# Altium schematic symbol library Schlib_Analog_Devices.SchLib: 86 symbols (part 1 of 2)
Pins are listed as number, name and electrical type; pins without a type are passive.

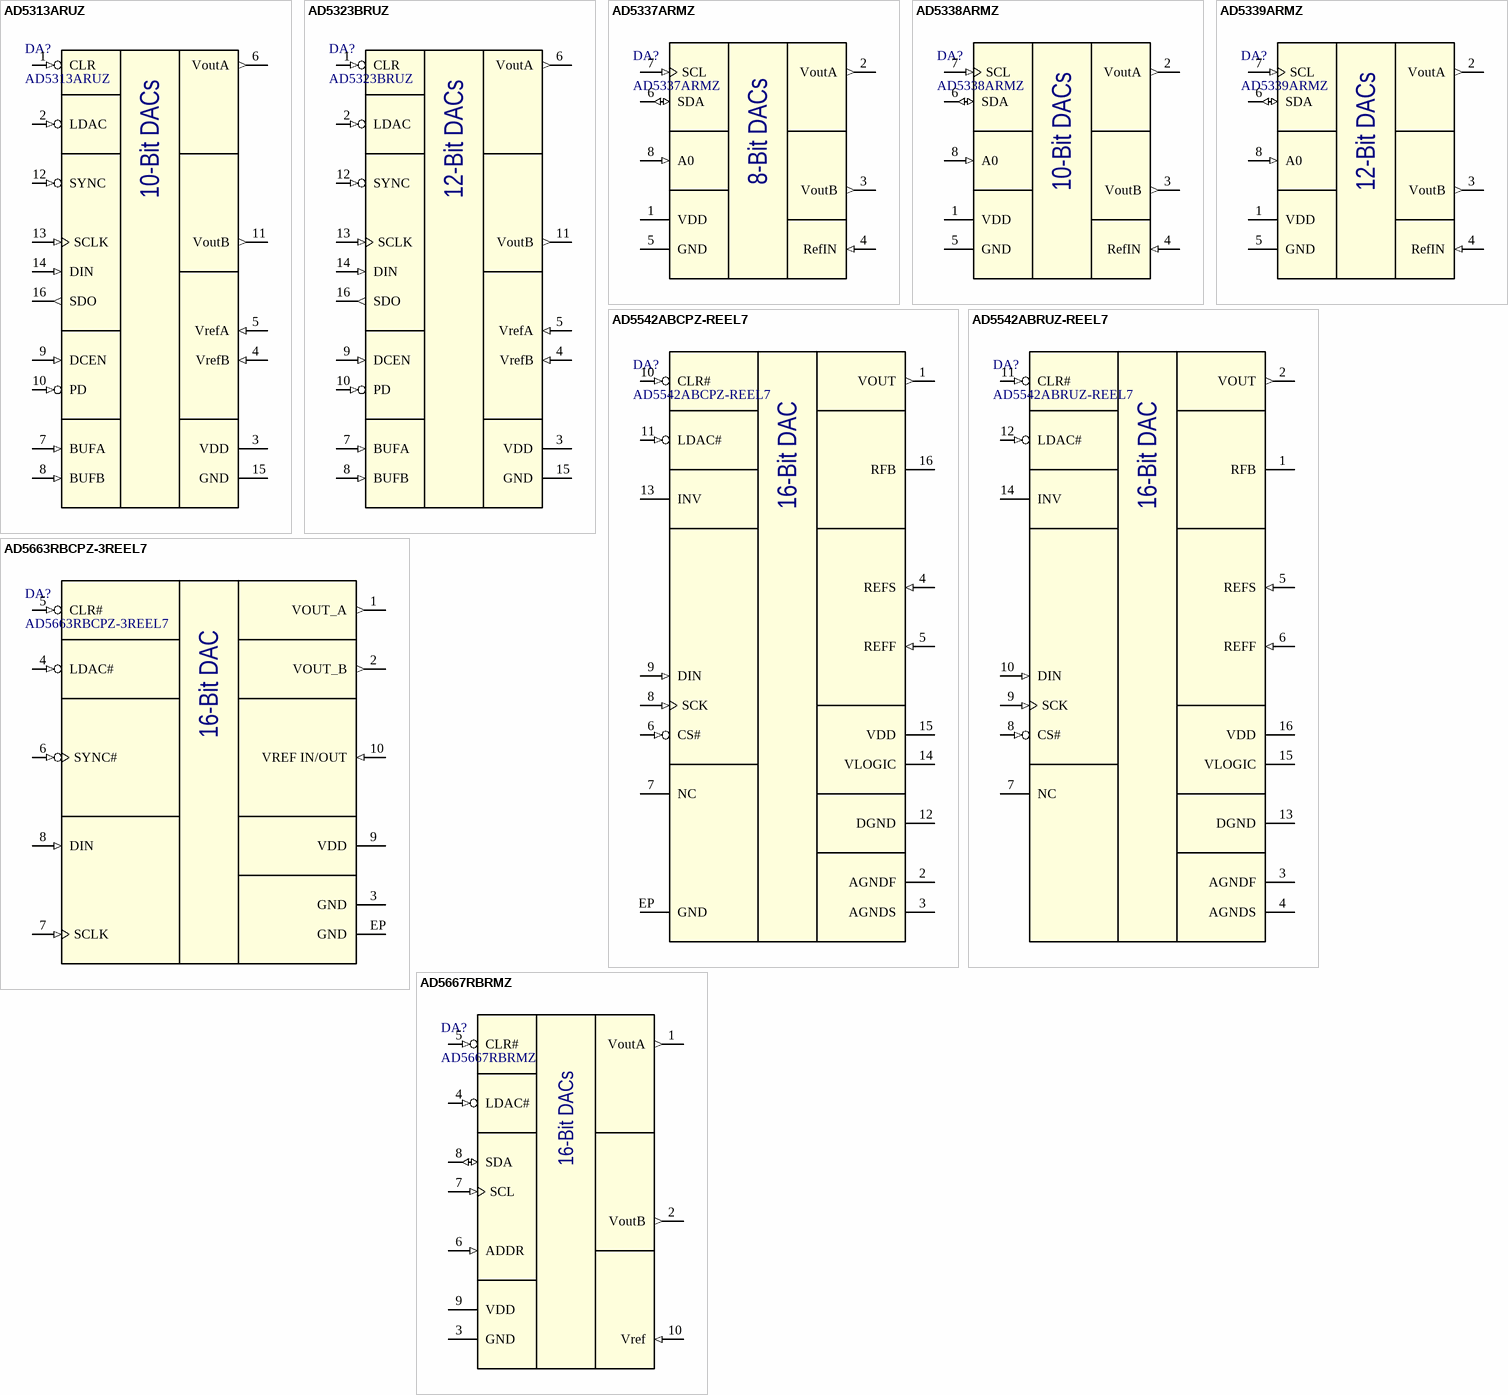
[diagram p0: symbols AD5313ARUZ to AD5667RBRMZ]

## AD5313ARUZ
designator DA?
Dual Rail-to-Rail Voltage Output 10-Bit DACs; Manufacturer: Analog Devices; Package: TSSOP16; Part Number: AD5313ARUZ
footprint TSSOP-16 (TSOP, 20-Leads, Body 6.50x4.40mm, Pitch 0.65mm, IPC Medium Density)
pins: 1 CLR (in), 2 LDAC (in), 3 VDD (power), 4 VrefB (in), 5 VrefA (in), 6 VoutA (out), 7 BUFA (in), 8 BUFB (in), 9 DCEN (in), 10 PD (in), 11 VoutB (out), 12 SYNC (in), 13 SCLK (in), 14 DIN (in), 15 GND (power), 16 SDO (out)
text: 10-Bit DACs

## AD5323BRUZ
designator DA?
Dual Rail-to-Rail Voltage Output 12-Bit DACs; Manufacturer: Analog Devices; Package: TSSOP16; Part Number: AD5323BRUZ
footprint TSSOP-16 (TSOP, 20-Leads, Body 6.50x4.40mm, Pitch 0.65mm, IPC Medium Density)
pins: 1 CLR (in), 2 LDAC (in), 3 VDD (power), 4 VrefB (in), 5 VrefA (in), 6 VoutA (out), 7 BUFA (in), 8 BUFB (in), 9 DCEN (in), 10 PD (in), 11 VoutB (out), 12 SYNC (in), 13 SCLK (in), 14 DIN (in), 15 GND (power), 16 SDO (out)
text: 12-Bit DACs

## AD5337ARMZ
designator DA?
Dual Voltage Output, 8-Bit DACs; Manufacturer: Analog Devices; Package: MSOP-8; Part Number: AD5337ARMZ
footprint MSOP-8 (TSOP, 8-Leads, Body 3.00x3.00mm, Pitch 0.65mm, IPC Medium Density)
pins: 1 VDD (power), 2 VoutA (out), 3 VoutB (out), 4 RefIN (in), 5 GND (power), 6 SDA (io), 7 SCL (in), 8 A0 (in)
text: 8-Bit DACs

## AD5338ARMZ
designator DA?
Dual Voltage Output, 10-Bit DACs; Manufacturer: Analog Devices; Package: MSOP-8; Part Number: AD5338ARMZ
footprint MSOP-8 (TSOP, 8-Leads, Body 3.00x3.00mm, Pitch 0.65mm, IPC Medium Density)
pins: 1 VDD (power), 2 VoutA (out), 3 VoutB (out), 4 RefIN (in), 5 GND (power), 6 SDA (io), 7 SCL (in), 8 A0 (in)
text: 10-Bit DACs

## AD5339ARMZ
designator DA?
Dual Voltage Output, 12-Bit DACs; Manufacturer: Analog Devices; Package: MSOP-8; Part Number: AD5339ARMZ
footprint MSOP-8 (TSOP, 8-Leads, Body 3.00x3.00mm, Pitch 0.65mm, IPC Medium Density)
pins: 1 VDD (power), 2 VoutA (out), 3 VoutB (out), 4 RefIN (in), 5 GND (power), 6 SDA (io), 7 SCL (in), 8 A0 (in)
text: 12-Bit DACs

## AD5542ABCPZ-REEL7
designator DA?
2.7 V to 5.5 V, Serial-Input, Voltage-Output, 16-Bit DAC; Manufacturer: Analog Devices; Package: LFCSP-16; Part Number: AD5542ABCPZ-REEL7
footprint LFCSP-16EP (3x3mm LFCSP-16 Package)
pins: 1 VOUT (out), 2 AGNDF (power), 3 AGNDS (power), 4 REFS (in), 5 REFF (in), 6 CS# (in), 7 NC (hiz), 8 SCK (in), 9 DIN (in), 10 CLR# (in), 11 LDAC# (in), 12 DGND (power), 13 INV, 14 VLOGIC (power), 15 VDD (power), 16 RFB, EP GND (power)
text: 16-Bit DAC

## AD5542ABRUZ-REEL7
designator DA?
2.7 V to 5.5 V, Serial-Input, Voltage-Output, 16-Bit DAC; Manufacturer: Analog Devices; Package: TSSOP16; Part Number: AD5542ABRUZ-REEL7
footprint TSSOP-16 (TSOP, 20-Leads, Body 6.50x4.40mm, Pitch 0.65mm, IPC Medium Density)
pins: 1 RFB, 2 VOUT (out), 3 AGNDF (power), 4 AGNDS (power), 5 REFS (in), 6 REFF (in), 7 NC (hiz), 8 CS# (in), 9 SCK (in), 10 DIN (in), 11 CLR# (in), 12 LDAC# (in), 13 DGND (power), 14 INV, 15 VLOGIC (power), 16 VDD (power)
text: 16-Bit DAC

## AD5663RBCPZ-3REEL7
designator DA?
Dual 16-Bit nanoDAC with 5 ppm/°C On-Chip Reference; Manufacturer: Analog Devices; Package: LFCSP-10; Part Number: AD5663RBCPZ-3REEL7
footprint LFCSP-10EP
pins: 1 VOUT_A (out), 2 VOUT_B (out), 3 GND (power), 4 LDAC# (in), 5 CLR# (in), 6 SYNC# (in), 7 SCLK (in), 8 DIN (in), 9 VDD (power), 10 VREF IN/OUT (in), EP GND (power)
text: 16-Bit DAC

## AD5667RBRMZ
designator DA?
Dual Rail-to-Rail Voltage Output 16-Bit DACs; Manufacturer: Analog Devices; Package: MSOP-10; Part Number: AD5667RBRMZ
footprint MSOP-10 (TSOP, 8-Leads, Body 3.00x3.00mm, Pitch 0.65mm, IPC Medium Density)
pins: 1 VoutA (out), 2 VoutB (out), 3 GND (power), 4 LDAC# (in), 5 CLR# (in), 6 ADDR (in), 7 SCL (in), 8 SDA (io), 9 VDD (power), 10 Vref (in)
text: 16-Bit DACs

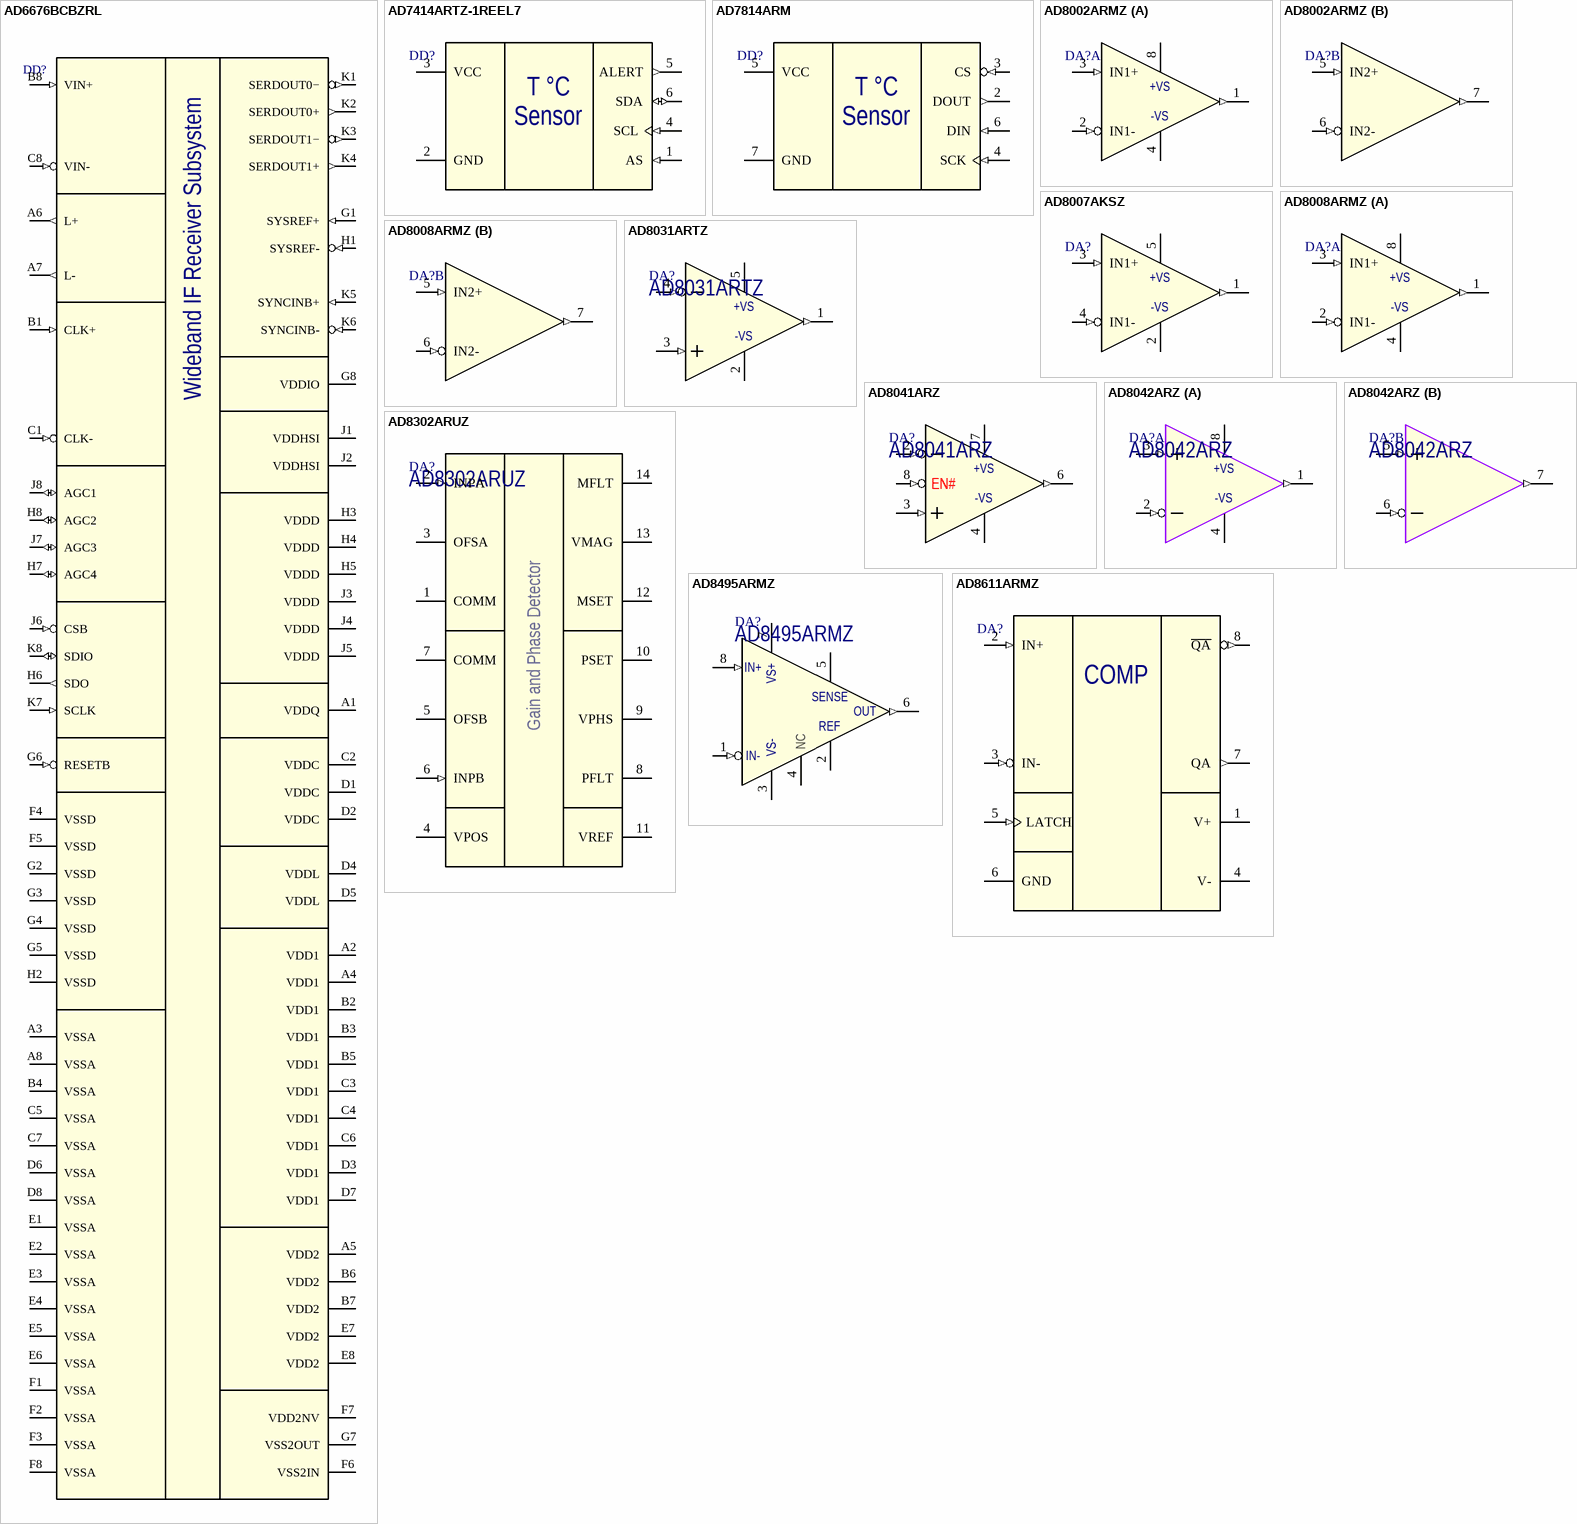
[diagram p1: symbols AD6676BCBZRL to AD8611ARMZ]

## AD6676BCBZRL
designator DD?  (value not drawn)
Wideband IF Receiver Subsystem; Manufacturer: Analog Devices; Package: WLCSP-80; Part Number: AD6676BCBZRL
footprint WLCSP-80 (WLCSP-80 package with 0.5mm pitch (Analog Devices Package Option CB-80-5 ))
pins: A1 VDDQ (power), A2 VDD1 (power), A3 VSSA (power), A4 VDD1 (power), A5 VDD2 (power), A6 L+ (out), A7 L- (out), A8 VSSA (power), B1 CLK+ (in), B2 VDD1 (power), B3 VDD1 (power), B4 VSSA (power), B5 VDD1 (power), B6 VDD2 (power), B7 VDD2 (power), B8 VIN+ (in), C1 CLK- (in), C2 VDDC (power), C3 VDD1 (power), C4 VDD1 (power), C5 VSSA (power), C6 VDD1 (power), C7 VSSA (power), C8 VIN- (in), D1 VDDC (power), D2 VDDC (power), D3 VDD1 (power), D4 VDDL (power), D5 VDDL (power), D6 VSSA (power), D7 VDD1 (power), D8 VSSA (power), E1 VSSA (power), E2 VSSA (power), E3 VSSA (power), E4 VSSA (power), E5 VSSA (power), E6 VSSA (power), E7 VDD2 (power), E8 VDD2 (power), F1 VSSA (power), F2 VSSA (power), F3 VSSA (power), F4 VSSD (power), F5 VSSD (power), F6 VSS2IN (power), F7 VDD2NV (power), F8 VSSA (power), G1 SYSREF+ (in), G2 VSSD (power), G3 VSSD (power), G4 VSSD (power), G5 VSSD (power), G6 RESETB (in), G7 VSS2OUT (power), G8 VDDIO (power), H1 SYSREF- (in), H2 VSSD (power), H3 VDDD (power), H4 VDDD (power), H5 VDDD (power), H6 SDO (out), H7 AGC4 (io), H8 AGC2 (io), J1 VDDHSI (power), J2 VDDHSI (power), J3 VDDD (power), J4 VDDD (power), J5 VDDD (power), J6 CSB (in), J7 AGC3 (io), J8 AGC1 (io), K1 SERDOUT0− (out), K2 SERDOUT0+ (out), K3 SERDOUT1− (out), K4 SERDOUT1+ (out), K5 SYNCINB+ (in), K6 SYNCINB- (in), K7 SCLK (in), K8 SDIO (io)

## AD7414ARTZ-1REEL7
designator DD?  (value not drawn)
±0.5°C Accurate, 10-Bit Digital / Temperature Sensors in SOT-23; Manufacturer: Analog Devices; Package: SOT23-6; Part Number: AD7414ARTZ-1REEL7
footprint SOT23-6 (SOT23, 6-Leads, Body 2.90x2.80mm, Pitch 0.95mm, IPC Medium Density)
pins: 1 AS (in), 2 GND (power), 3 VCC (power), 4 SCL (in), 5 ALERT (out), 6 SDA (io)
text: T °C; Sensor

## AD7814ARM
designator DD?  (value not drawn)
Temperature Sensor; Manufacturer: Analog Devices; Package: MSOP-8; Part Number: AD7814ARM
footprint MSOP-8 (TSOP, 8-Leads, Body 3.00x3.00mm, Pitch 0.65mm, IPC Medium Density)
pins: 2 DOUT (out), 3 CS (in), 4 SCK (in), 5 VCC (power), 6 DIN (in), 7 GND (power)
text: T °C; Sensor

## AD8002ARMZ
designator DA?  (value not drawn)
Dual 600 MHz, 50 mW Current Feedback Amplifier; Manufacturer: Analog Devices; Package: MSOP-8; Part Number: AD8002ARMZ
footprint MSOP-8 (TSOP, 8-Leads, Body 3.00x3.00mm, Pitch 0.65mm, IPC Medium Density)
part A pins: 1 OUT1 (out), 2 IN1- (in), 3 IN1+ (in), 4 VS- (power), 8 VS+ (power)
part B pins: 5 IN2+ (in), 6 IN2- (in), 7 OUT2 (out)
part A text: +VS; -VS

## AD8007AKSZ
designator DA?  (value not drawn)
Single Ultralow Distortion, High Speed Amplifiers; Manufacturer: Analog Devices; Package: SC70-5; Part Number: AD8007AKSZ
footprint SC70-5
pins: 1 OUT1 (out), 2 VS- (power), 3 IN1+ (in), 4 IN1- (in), 5 VS+ (power)
text: +VS; -VS

## AD8008ARMZ
designator DA?  (value not drawn)
Dual Ultralow Distortion, High Speed Amplifiers; Manufacturer: Analog Devices; Package: MSOP-8; Part Number: AD8008ARMZ
footprint MSOP-8 (TSOP, 8-Leads, Body 3.00x3.00mm, Pitch 0.65mm, IPC Medium Density)
part A pins: 1 OUT1 (out), 2 IN1- (in), 3 IN1+ (in), 4 VS- (power), 8 VS+ (power)
part B pins: 5 IN2+ (in), 6 IN2- (in), 7 OUT2 (out)
part A text: +VS; -VS

## AD8031ARTZ
designator DA?
80 MHz Rail-to-Rail I/O Amplifier; Manufacturer: Analog Devices; Package: SOT23-5; Part Number: AD8031ARTZ
footprint SOT23-5 (SOT23, 6-Leads, Body 2.90x2.80mm, Pitch 0.95mm, IPC Medium Density)
pins: 1 OUT (out), 2 VS- (power), 3 IN+ (in), 4 IN- (in), 5 VS+ (power)
text: +VS; -VS

## AD8041ARZ
designator DA?
160 MHz Rail-to-Rail Amplifier with Disable; Manufacturer: Analog Devices; Package: SOIC-8; Part Number: AD8041ARZ
footprint SOIC-8 (SOIC-8 package)
pins: 2 IN- (in), 3 IN+ (in), 4 VS- (power), 6 OUT (out), 7 VS+ (power), 8 DIS (in)
text: +VS; EN#; -VS

## AD8042ARZ
designator DA?
Dual 160 MHz Rail-to-Rail Amplifier; Manufacturer: Analog Devices; Package: SOIC-8; Part Number: AD8042ARZ
footprint SOIC-8 (SOIC-8 package)
part A pins: 1 OUT1 (out), 2 IN1- (in), 3 IN1+ (in), 4 VS- (power), 8 VS+ (power)
part B pins: 5 IN2+ (in), 6 IN2- (in), 7 OUT2 (out)
part A text: +VS; -VS

## AD8302ARUZ
designator DA?
LF–2.7 GHz RF/IF Gain and Phase Detector; Manufacturer: Analog Devices; Package: TSSOP-14; Part Number: AD8302ARUZ
footprint TSSOP-14 (TSOP, 20-Leads, Body 6.50x4.40mm, Pitch 0.65mm, IPC Medium Density)
pins: 1 COMM (power), 2 INPA (in), 3 OFSA, 4 VPOS (power), 5 OFSB, 6 INPB (in), 7 COMM (power), 8 PFLT, 9 VPHS, 10 PSET, 11 VREF, 12 MSET, 13 VMAG, 14 MFLT
text: Gain and Phase Detector

## AD8495ARMZ
designator DA?
Precision Thermocouple Amplifiers with Cold Junction Compensation; Manufacturer: Analog Devices; Package: MSOP-8; Part Number: AD8495ARMZ
footprint MSOP-8 (TSOP, 8-Leads, Body 3.00x3.00mm, Pitch 0.65mm, IPC Medium Density)
pins: 1 IN- (in), 2 REF, 3 VS- (power), 4 NC (hiz), 5 SENS, 6 OUT (out), 7 VS+ (power), 8 IN+ (in)
text: SENSE

## AD8611ARMZ
designator DA?  (value not drawn)
Ultrafast, 4 ns Single-Supply Comparators; Manufacturer: Analog Devices; Package: MSOP-8; Part Number: AD8611ARMZ
footprint MSOP-8 (TSOP, 8-Leads, Body 3.00x3.00mm, Pitch 0.65mm, IPC Medium Density)
pins: 1 V+ (power), 2 IN+ (in), 3 IN- (in), 4 V- (power), 5 LATCH (in), 6 GND (power), 7 QA (out), 8 ~{QA} (out)
text: COMP

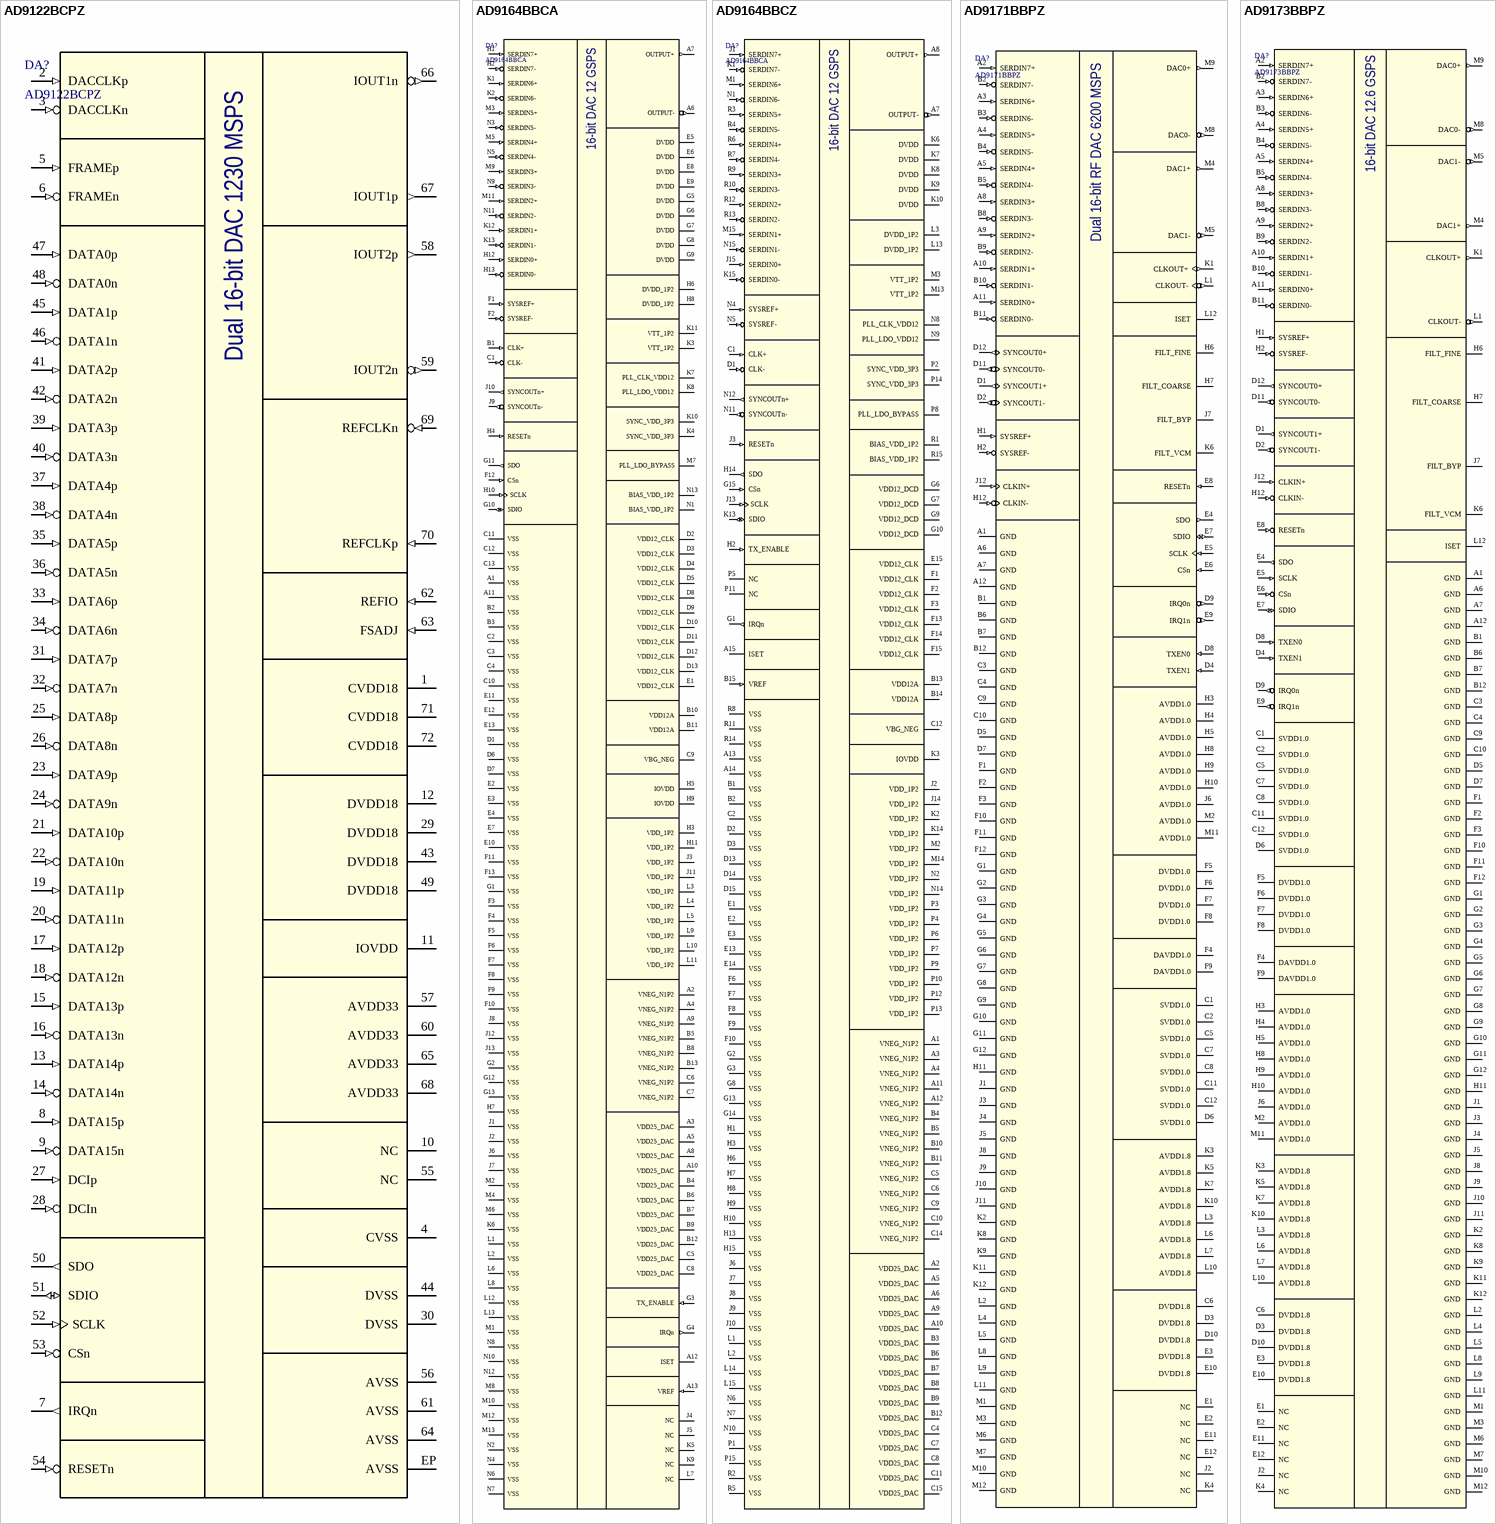
[diagram p2: symbols AD9122BCPZ to AD9173BBPZ]

## AD9122BCPZ
designator DA?
Dual 16-Bit DAC; Manufacturer: Analog Devices; Package: LFCSP-72 (10x10mm); Part Number: AD9122BCPZ
footprint LFCSP-72EP (LFCSP-72 package with 0.5mm pitch)
pins: 1 CVDD18 (power), 2 DACCLKp (in), 3 DACCLKn (in), 4 CVSS (power), 5 FRAMEp (in), 6 FRAMEn (in), 7 IRQn (out), 8 DATA15p (in), 9 DATA15n (in), 10 NC (hiz), 11 IOVDD (power), 12 DVDD18 (power), 13 DATA14p (in), 14 DATA14n (in), 15 DATA13p (in), 16 DATA13n (in), 17 DATA12p (in), 18 DATA12n (in), 19 DATA11p (in), 20 DATA11n (in), 21 DATA10p (in), 22 DATA10n (in), 23 DATA9p (in), 24 DATA9n (in), 25 DATA8p (in), 26 DATA8n (in), 27 DCIp (in), 28 DCIn (in), 29 DVDD18 (power), 30 DVSS (power), 31 DATA7p (in), 32 DATA7n (in), 33 DATA6p (in), 34 DATA6n (in), 35 DATA5p (in), 36 DATA5n (in), 37 DATA4p (in), 38 DATA4n (in), 39 DATA3p (in), 40 DATA3n (in), 41 DATA2p (in), 42 DATA2n (in), 43 DVDD18 (power), 44 DVSS (power), 45 DATA1p (in), 46 DATA1n (in), 47 DATA0p (in), 48 DATA0n (in), 49 DVDD18 (power), 50 SDO (out), 51 SDIO (io), 52 SCLK (in), 53 CSn (in), 54 RESETn (in), 55 NC (hiz), 56 AVSS (power), 57 AVDD33 (power), 58 IOUT2p (out), 59 IOUT2n (out), 60 AVDD33 (power), 61 AVSS (power), 62 REFIO (in), 63 FSADJ (in), 64 AVSS (power), 65 AVDD33 (power), 66 IOUT1n (out), 67 IOUT1p (out), 68 AVDD33 (power), 69 REFCLKn (in), 70 REFCLKp (in), 71 CVDD18 (power), 72 CVDD18 (power), EP AVSS (power)
text: Dual 16-bit DAC 1230 MSPS

## AD9164BBCA
designator DA?
16-Bit RF DAC and DDS; Manufacturer: Analog Devices; Package: CSPBGA-169 (11x11mm); Part Number: AD9164BBCA
footprint CSPBGA-169 (CSPBGA-169 package with 0.8mm pitch)
pins: A1 VSS (power), A2 VNEG_N1P2 (power), A3 VDD25_DAC (power), A4 VNEG_N1P2 (power), A5 VDD25_DAC (power), A6 OUTPUT- (out), A7 OUTPUT+ (out), A8 VDD25_DAC (power), A9 VNEG_N1P2 (power), A10 VDD25_DAC (power), A11 VSS (power), A12 ISET, A13 VREF (in), B1 CLK+ (in), B2 VSS (power), B3 VSS (power), B4 VDD25_DAC (power), B5 VNEG_N1P2 (power), B6 VDD25_DAC (power), B7 VDD25_DAC (power), B8 VNEG_N1P2 (power), B9 VDD25_DAC (power), B10 VDD12A (power), B11 VDD12A (power), B12 VDD25_DAC (power), B13 VNEG_N1P2 (power), C1 CLK- (in), C2 VSS (power), C3 VSS (power), C4 VSS (power), C5 VDD25_DAC (power), C6 VNEG_N1P2 (power), C7 VNEG_N1P2 (power), C8 VDD25_DAC (power), C9 VBG_NEG (power), C10 VSS (power), C11 VSS (power), C12 VSS (power), C13 VSS (power), D1 VSS (power), D2 VDD12_CLK (power), D3 VDD12_CLK (power), D4 VDD12_CLK (power), D5 VDD12_CLK (power), D6 VSS (power), D7 VSS (power), D8 VDD12_CLK (power), D9 VDD12_CLK (power), D10 VDD12_CLK (power), D11 VDD12_CLK (power), D12 VDD12_CLK (power), D13 VDD12_CLK (power), E1 VDD12_CLK (power), E2 VSS (power), E3 VSS (power), E4 VSS (power), E5 DVDD (power), E6 DVDD (power), E7 VSS (power), E8 DVDD (power), E9 DVDD (power), E10 VSS (power), E11 VSS (power), E12 VSS (power), E13 VSS (power), F1 SYSREF+ (in), F2 SYSREF- (in), F3 VSS (power), F4 VSS (power), F5 VSS (power), F6 VSS (power), F7 VSS (power), F8 VSS (power), F9 VSS (power), F10 VSS (power), F11 VSS (power), F12 CSn (in), F13 VSS (power), G1 VSS (power), G2 VSS (power), G3 TX_ENABLE (in), G4 IRQn (out), G5 DVDD (power), G6 DVDD (power), G7 DVDD (power), G8 DVDD (power), G9 DVDD (power), G10 SDIO (io), G11 SDO (out), G12 VSS (power), G13 VSS (power), H1 SERDIN7+ (in), H2 SERDIN7- (in), H3 VDD_1P2 (power), H4 RESETn (in), H5 IOVDD (power), H6 DVDD_1P2 (power), H7 VSS (power), H8 DVDD_1P2 (power), H9 IOVDD (power), H10 SCLK (in), H11 VDD_1P2 (power), H12 SERDIN0+ (in), H13 SERDIN0- (in), J1 VSS (power), J2 VSS (power), J3 VDD_1P2 (power), J4 NC (hiz), J5 NC (hiz), J6 VSS (power), J7 VSS (power), J8 VSS (power), J9 SYNCOUTn- (out), J10 SYNCOUTn+ (out), J11 VDD_1P2 (power), J12 VSS (power), J13 VSS (power), K1 SERDIN6+ (in), K2 SERDIN6- (in), K3 VTT_1P2 (power), K4 SYNC_VDD_3P3 (power), K5 NC (hiz), K6 VSS (power), K7 PLL_CLK_VDD12 (power), K8 PLL_LDO_VDD12 (power), K9 NC (hiz), K10 SYNC_VDD_3P3 (power), K11 VTT_1P2 (power), K12 SERDIN1+ (in), K13 SERDIN1- (in), L1 VSS (power), L2 VSS (power), L3 VDD_1P2 (power), L4 VDD_1P2 (power), L5 VDD_1P2 (power), L6 VSS (power), L7 NC (hiz), L8 VSS (power), L9 VDD_1P2 (power), L10 VDD_1P2 (power), L11 VDD_1P2 (power), L12 VSS (power), L13 VSS (power), M1 VSS (power), M2 VSS (power), M3 SERDIN5+ (in), M4 VSS (power), M5 SERDIN4+ (in), M6 VSS (power), M7 PLL_LDO_BYPASS (power), M8 VSS (power), M9 SERDIN3+ (in), M10 VSS (power), M11 SERDIN2+ (in), M12 VSS (power), M13 VSS (power), N1 BIAS_VDD_1P2 (power), N2 VSS (power), N3 SERDIN5- (in), N4 VSS (power), N5 SERDIN4- (in), N6 VSS (power), N7 VSS (power), N8 VSS (power), N9 SERDIN3- (in), N10 VSS (power), N11 SERDIN2- (in), N12 VSS (power), N13 BIAS_VDD_1P2 (power)
text: 16-bit DAC 12 GSPS

## AD9164BBCZ
designator DA?, comment AD9164BBCA
16-Bit RF DAC and DDS; Manufacturer: Analog Devices; Package: CSPBGA-165 (8x8mm); Part Number: AD9164BBCA
footprint CSPBGA-165 (CSPBGA-165 package with 0.5mm pitch)
pins: A1 VNEG_N1P2 (power), A2 VDD25_DAC (power), A3 VNEG_N1P2 (power), A4 VNEG_N1P2 (power), A5 VDD25_DAC (power), A6 VDD25_DAC (power), A7 OUTPUT- (out), A8 OUTPUT+ (out), A9 VDD25_DAC (power), A10 VDD25_DAC (power), A11 VNEG_N1P2 (power), A12 VNEG_N1P2 (power), A13 VSS (power), A14 VSS (power), A15 ISET, B1 VSS (power), B2 VSS (power), B3 VDD25_DAC (power), B4 VNEG_N1P2 (power), B5 VNEG_N1P2 (power), B6 VDD25_DAC (power), B7 VDD25_DAC (power), B8 VDD25_DAC (power), B9 VDD25_DAC (power), B10 VNEG_N1P2 (power), B11 VNEG_N1P2 (power), B12 VDD25_DAC (power), B13 VDD12A (power), B14 VDD12A (power), B15 VREF (in), C1 CLK+ (in), C2 VSS (power), C4 VDD25_DAC (power), C5 VNEG_N1P2 (power), C6 VNEG_N1P2 (power), C7 VDD25_DAC (power), C8 VDD25_DAC (power), C9 VNEG_N1P2 (power), C10 VNEG_N1P2 (power), C11 VDD25_DAC (power), C12 VBG_NEG (power), C14 VNEG_N1P2 (power), C15 VDD25_DAC (power), D1 CLK- (in), D2 VSS (power), D3 VSS (power), D13 VSS (power), D14 VSS (power), D15 VSS (power), E1 VSS (power), E2 VSS (power), E3 VSS (power), E13 VSS (power), E14 VSS (power), E15 VDD12_CLK (power), F1 VDD12_CLK (power), F2 VDD12_CLK (power), F3 VDD12_CLK (power), F6 VSS (power), F7 VSS (power), F8 VSS (power), F9 VSS (power), F10 VSS (power), F13 VDD12_CLK (power), F14 VDD12_CLK (power), F15 VDD12_CLK (power), G1 IRQn (out), G2 VSS (power), G3 VSS (power), G6 VDD12_DCD (power), G7 VDD12_DCD (power), G8 VSS (power), G9 VDD12_DCD (power), G10 VDD12_DCD (power), G13 VSS (power), G14 VSS (power), G15 CSn (in), H1 VSS (power), H2 TX_ENABLE (in), H3 VSS (power), H6 VSS (power), H7 VSS (power), H8 VSS (power), H9 VSS (power), H10 VSS (power), H13 VSS (power), H14 SDO (out), H15 VSS (power), J1 SERDIN7+ (in), J2 VDD_1P2 (power), J3 RESETn (in), J6 VSS (power), J7 VSS (power), J8 VSS (power), J9 VSS (power), J10 VSS (power), J13 SCLK (in), J14 VDD_1P2 (power), J15 SERDIN0+ (in), K1 SERDIN7- (in), K2 VDD_1P2 (power), K3 IOVDD (power), K6 DVDD (power), K7 DVDD (power), K8 DVDD (power), K9 DVDD (power), K10 DVDD (power), K13 SDIO (io), K14 VDD_1P2 (power), K15 SERDIN0- (in), L1 VSS (power), L2 VSS (power), L3 DVDD_1P2 (power), L13 DVDD_1P2 (power), L14 VSS (power), L15 VSS (power), M1 SERDIN6+ (in), M2 VDD_1P2 (power), M3 VTT_1P2 (power), M13 VTT_1P2 (power), M14 VDD_1P2 (power), M15 SERDIN1+ (in), N1 SERDIN6- (in), N2 VDD_1P2 (power), N4 SYSREF+ (in), N5 SYSREF- (in), N6 VSS (power), N7 VSS (power), N8 PLL_CLK_VDD12 (power), N9 PLL_LDO_VDD12 (power), N10 VSS (power), N11 SYNCOUTn- (out), N12 SYNCOUTn+ (out), N14 VDD_1P2 (power), N15 SERDIN1- (in), P1 VSS (power), P2 SYNC_VDD_3P3 (power), P3 VDD_1P2 (power), P4 VDD_1P2 (power), P5 NC (hiz), P6 VDD_1P2 (power), P7 VDD_1P2 (power), P8 PLL_LDO_BYPASS (power), P9 VDD_1P2 (power), P10 VDD_1P2 (power), P11 NC (hiz), P12 VDD_1P2 (power), P13 VDD_1P2 (power), P14 SYNC_VDD_3P3 (power), P15 VSS (power), R1 BIAS_VDD_1P2 (power), R2 VSS (power), R3 SERDIN5+ (in), R4 SERDIN5- (in), R5 VSS (power), R6 SERDIN4+ (in), R7 SERDIN4- (in), R8 VSS (power), R9 SERDIN3+ (in), R10 SERDIN3- (in), R11 VSS (power), R12 SERDIN2+ (in), R13 SERDIN2- (in), R14 VSS (power), R15 BIAS_VDD_1P2 (power)
text: 16-bit DAC 12 GSPS

## AD9171BBPZ
designator DA?
Dual 16-Bit, 6.2 GSPS RF DAC with Single Channelizer; Manufacturer: Analog Devices; Package: BGA-144ED; Part Number: AD9171BBPZ
footprint BGA-144ED (BGA, 144-Leads, Body 10,00x10,00mmx1,71mm, Pitch 0,80mm (package option from Analog Devices BP-144-1))
pins: A1 GND (power), A2 SERDIN7+ (in), A3 SERDIN6+ (in), A4 SERDIN5+ (in), A5 SERDIN4+ (in), A6 GND (power), A7 GND (power), A8 SERDIN3+ (in), A9 SERDIN2+ (in), A10 SERDIN1+ (in), A11 SERDIN0+ (in), A12 GND (power), B1 GND (power), B2 SERDIN7- (in), B3 SERDIN6- (in), B4 SERDIN5- (in), B5 SERDIN4- (in), B6 GND (power), B7 GND (power), B8 SERDIN3- (in), B9 SERDIN2- (in), B10 SERDIN1- (in), B11 SERDIN0- (in), B12 GND (power), C1 SVDD1.0 (power), C2 SVDD1.0 (power), C3 GND (power), C4 GND (power), C5 SVDD1.0 (power), C6 DVDD1.8 (power), C7 SVDD1.0 (power), C8 SVDD1.0 (power), C9 GND (power), C10 GND (power), C11 SVDD1.0 (power), C12 SVDD1.0 (power), D1 SYNCOUT1+ (out), D2 SYNCOUT1- (out), D3 DVDD1.8 (power), D4 TXEN1 (in), D5 GND (power), D6 SVDD1.0 (power), D7 GND (power), D8 TXEN0 (in), D9 IRQ0n (out), D10 DVDD1.8 (power), D11 SYNCOUT0- (out), D12 SYNCOUT0+ (out), E1 NC (hiz), E2 NC (hiz), E3 DVDD1.8 (power), E4 SDO (out), E5 SCLK (in), E6 CSn (in), E7 SDIO (io), E8 RESETn (in), E9 IRQ1n (out), E10 DVDD1.8 (power), E11 NC (hiz), E12 NC (hiz), F1 GND (power), F2 GND (power), F3 GND (power), F4 DAVDD1.0 (power), F5 DVDD1.0 (power), F6 DVDD1.0 (power), F7 DVDD1.0 (power), F8 DVDD1.0 (power), F9 DAVDD1.0 (power), F10 GND (power), F11 GND (power), F12 GND (power), G1 GND (power), G2 GND (power), G3 GND (power), G4 GND (power), G5 GND (power), G6 GND (power), G7 GND (power), G8 GND (power), G9 GND (power), G10 GND (power), G11 GND (power), G12 GND (power), H1 SYSREF+ (in), H2 SYSREF- (in), H3 AVDD1.0 (power), H4 AVDD1.0 (power), H5 AVDD1.0 (power), H6 FILT_FINE (power), H7 FILT_COARSE (power), H8 AVDD1.0 (power), H9 AVDD1.0 (power), H10 AVDD1.0 (power), H11 GND (power), H12 CLKIN- (in), J1 GND (power), J2 NC (hiz), J3 GND (power), J4 GND (power), J5 GND (power), J6 AVDD1.0 (power), J7 FILT_BYP (power), J8 GND (power), J9 GND (power), J10 GND (power), J11 GND (power), J12 CLKIN+ (in), K1 CLKOUT+ (out), K2 GND (power), K3 AVDD1.8 (power), K4 NC (hiz), K5 AVDD1.8 (power), K6 FILT_VCM (power), K7 AVDD1.8 (power), K8 GND (power), K9 GND (power), K10 AVDD1.8 (power), K11 GND (power), K12 GND (power), L1 CLKOUT- (out), L2 GND (power), L3 AVDD1.8 (power), L4 GND (power), L5 GND (power), L6 AVDD1.8 (power), L7 AVDD1.8 (power), L8 GND (power), L9 GND (power), L10 AVDD1.8 (power), L11 GND (power), L12 ISET, M1 GND (power), M2 AVDD1.0 (power), M3 GND (power), M4 DAC1+ (out), M5 DAC1- (out), M6 GND (power), M7 GND (power), M8 DAC0- (out), M9 DAC0+ (out), M10 GND (power), M11 AVDD1.0 (power), M12 GND (power)
text: Dual 16-bit RF DAC 6200 MSPS

## AD9173BBPZ
designator DA?
Dual 16-Bit 12.6 GSPS RF DAC with Channelizers; Manufacturer: Analog Devices; Package: BGA-144ED; Part Number: AD9173BBPZ
footprint BGA-144ED (BGA, 144-Leads, Body 10,00x10,00mmx1,71mm, Pitch 0,80mm (package option from Analog Devices BP-144-1))
pins: A1 GND (power), A2 SERDIN7+ (in), A3 SERDIN6+ (in), A4 SERDIN5+ (in), A5 SERDIN4+ (in), A6 GND (power), A7 GND (power), A8 SERDIN3+ (in), A9 SERDIN2+ (in), A10 SERDIN1+ (in), A11 SERDIN0+ (in), A12 GND (power), B1 GND (power), B2 SERDIN7- (in), B3 SERDIN6- (in), B4 SERDIN5- (in), B5 SERDIN4- (in), B6 GND (power), B7 GND (power), B8 SERDIN3- (in), B9 SERDIN2- (in), B10 SERDIN1- (in), B11 SERDIN0- (in), B12 GND (power), C1 SVDD1.0 (power), C2 SVDD1.0 (power), C3 GND (power), C4 GND (power), C5 SVDD1.0 (power), C6 DVDD1.8 (power), C7 SVDD1.0 (power), C8 SVDD1.0 (power), C9 GND (power), C10 GND (power), C11 SVDD1.0 (power), C12 SVDD1.0 (power), D1 SYNCOUT1+ (out), D2 SYNCOUT1- (out), D3 DVDD1.8 (power), D4 TXEN1 (in), D5 GND (power), D6 SVDD1.0 (power), D7 GND (power), D8 TXEN0 (in), D9 IRQ0n (out), D10 DVDD1.8 (power), D11 SYNCOUT0- (out), D12 SYNCOUT0+ (out), E1 NC (hiz), E2 NC (hiz), E3 DVDD1.8 (power), E4 SDO (out), E5 SCLK (in), E6 CSn (in), E7 SDIO (io), E8 RESETn (in), E9 IRQ1n (out), E10 DVDD1.8 (power), E11 NC (hiz), E12 NC (hiz), F1 GND (power), F2 GND (power), F3 GND (power), F4 DAVDD1.0 (power), F5 DVDD1.0 (power), F6 DVDD1.0 (power), F7 DVDD1.0 (power), F8 DVDD1.0 (power), F9 DAVDD1.0 (power), F10 GND (power), F11 GND (power), F12 GND (power), G1 GND (power), G2 GND (power), G3 GND (power), G4 GND (power), G5 GND (power), G6 GND (power), G7 GND (power), G8 GND (power), G9 GND (power), G10 GND (power), G11 GND (power), G12 GND (power), H1 SYSREF+ (in), H2 SYSREF- (in), H3 AVDD1.0 (power), H4 AVDD1.0 (power), H5 AVDD1.0 (power), H6 FILT_FINE, H7 FILT_COARSE, H8 AVDD1.0 (power), H9 AVDD1.0 (power), H10 AVDD1.0 (power), H11 GND (power), H12 CLKIN- (in), J1 GND (power), J2 NC (hiz), J3 GND (power), J4 GND (power), J5 GND (power), J6 AVDD1.0 (power), J7 FILT_BYP, J8 GND (power), J9 GND (power), J10 GND (power), J11 GND (power), J12 CLKIN+ (in), K1 CLKOUT+ (out), K2 GND (power), K3 AVDD1.8 (power), K4 NC (hiz), K5 AVDD1.8 (power), K6 FILT_VCM, K7 AVDD1.8 (power), K8 GND (power), K9 GND (power), K10 AVDD1.8 (power), K11 GND (power), K12 GND (power), L1 CLKOUT- (out), L2 GND (power), L3 AVDD1.8 (power), L4 GND (power), L5 GND (power), L6 AVDD1.8 (power), L7 AVDD1.8 (power), L8 GND (power), L9 GND (power), L10 AVDD1.8 (power), L11 GND (power), L12 ISET, M1 GND (power), M2 AVDD1.0 (power), M3 GND (power), M4 DAC1+ (out), M5 DAC1- (out), M6 GND (power), M7 GND (power), M8 DAC0- (out), M9 DAC0+ (out), M10 GND (power), M11 AVDD1.0 (power), M12 GND (power)
text: 16-bit DAC 12.6 GSPS

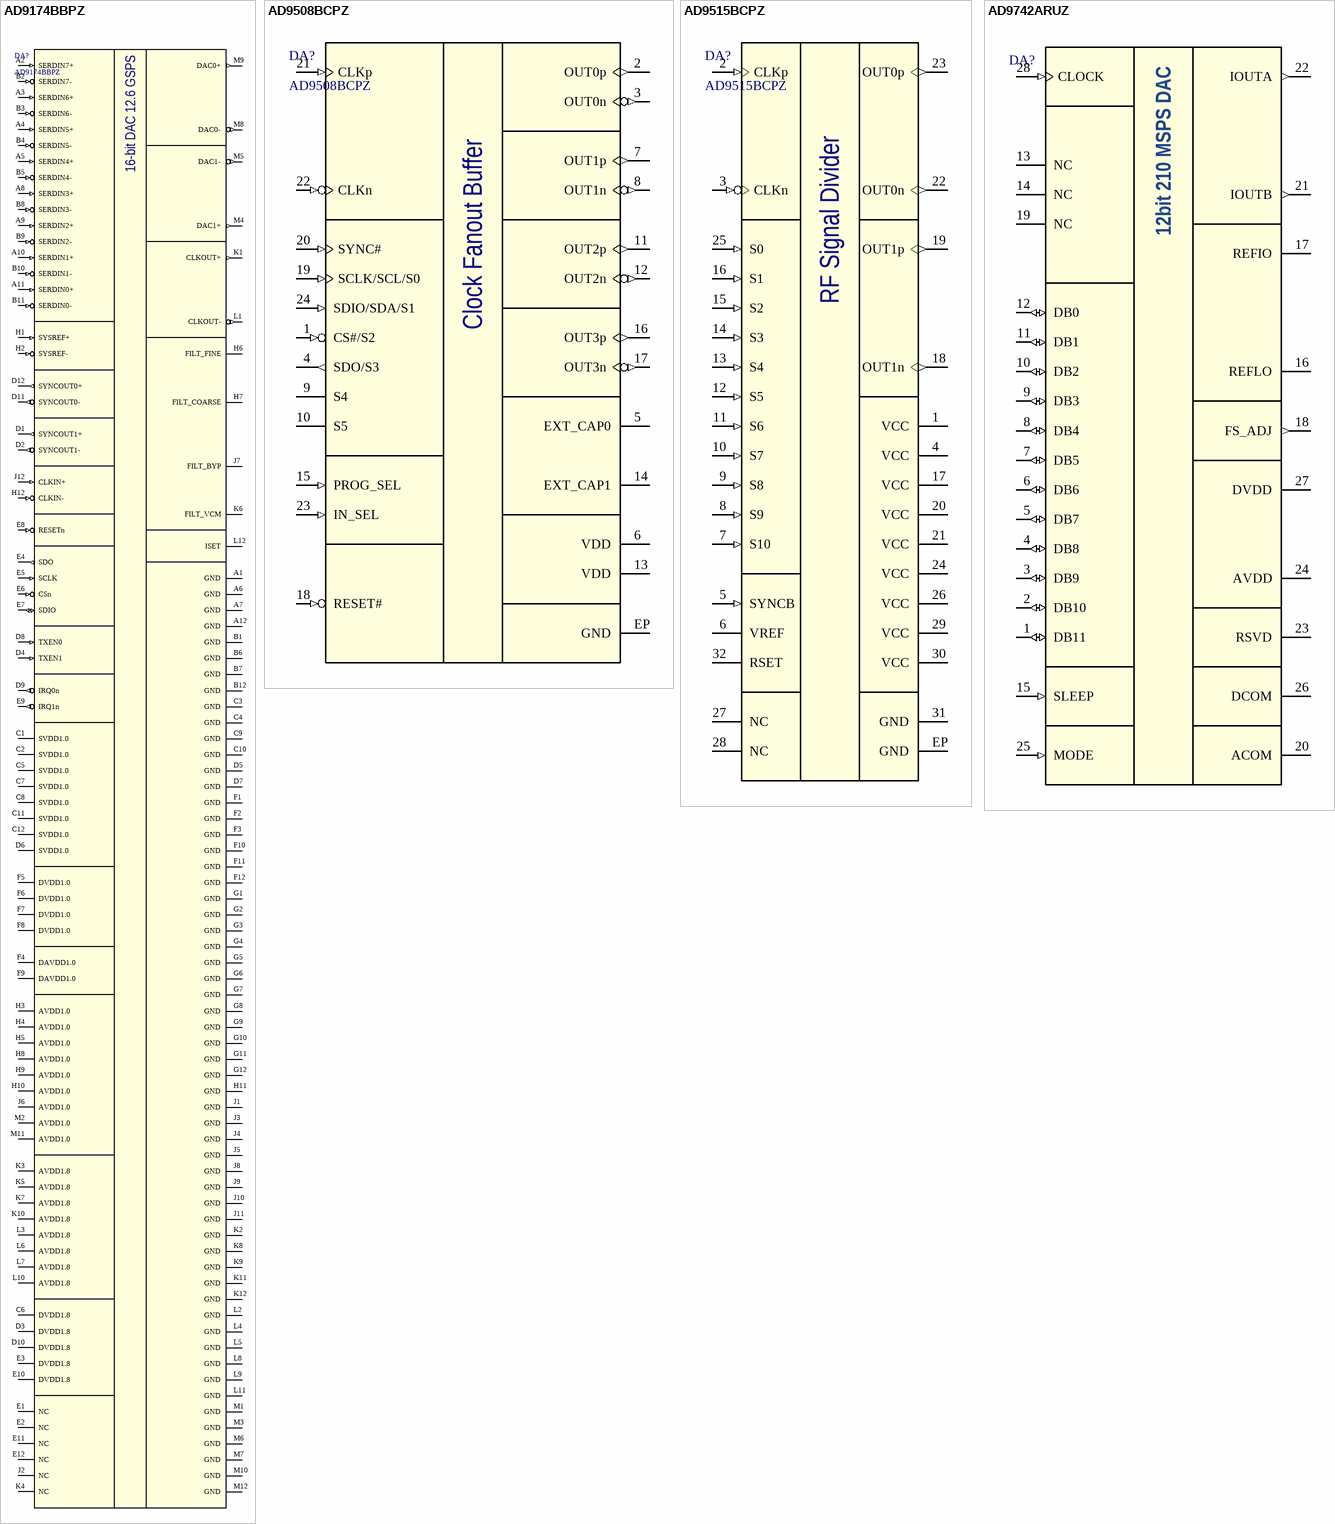
[diagram p3: symbols AD9174BBPZ to AD9742ARUZ]

## AD9174BBPZ
designator DA?
Dual 16-Bit 12.6 GSPS RF DAC and Direct Digital Synthesizer; Manufacturer: Analog Devices; Package: BGA-144ED; Part Number: AD9174BBPZ
footprint BGA-144ED (BGA, 144-Leads, Body 10,00x10,00mmx1,71mm, Pitch 0,80mm (package option from Analog Devices BP-144-1))
pins: A1 GND (power), A2 SERDIN7+ (in), A3 SERDIN6+ (in), A4 SERDIN5+ (in), A5 SERDIN4+ (in), A6 GND (power), A7 GND (power), A8 SERDIN3+ (in), A9 SERDIN2+ (in), A10 SERDIN1+ (in), A11 SERDIN0+ (in), A12 GND (power), B1 GND (power), B2 SERDIN7- (in), B3 SERDIN6- (in), B4 SERDIN5- (in), B5 SERDIN4- (in), B6 GND (power), B7 GND (power), B8 SERDIN3- (in), B9 SERDIN2- (in), B10 SERDIN1- (in), B11 SERDIN0- (in), B12 GND (power), C1 SVDD1.0 (power), C2 SVDD1.0 (power), C3 GND (power), C4 GND (power), C5 SVDD1.0 (power), C6 DVDD1.8 (power), C7 SVDD1.0 (power), C8 SVDD1.0 (power), C9 GND (power), C10 GND (power), C11 SVDD1.0 (power), C12 SVDD1.0 (power), D1 SYNCOUT1+ (out), D2 SYNCOUT1- (out), D3 DVDD1.8 (power), D4 TXEN1 (in), D5 GND (power), D6 SVDD1.0 (power), D7 GND (power), D8 TXEN0 (in), D9 IRQ0n (out), D10 DVDD1.8 (power), D11 SYNCOUT0- (out), D12 SYNCOUT0+ (out), E1 NC (hiz), E2 NC (hiz), E3 DVDD1.8 (power), E4 SDO (out), E5 SCLK (in), E6 CSn (in), E7 SDIO (io), E8 RESETn (in), E9 IRQ1n (out), E10 DVDD1.8 (power), E11 NC (hiz), E12 NC (hiz), F1 GND (power), F2 GND (power), F3 GND (power), F4 DAVDD1.0 (power), F5 DVDD1.0 (power), F6 DVDD1.0 (power), F7 DVDD1.0 (power), F8 DVDD1.0 (power), F9 DAVDD1.0 (power), F10 GND (power), F11 GND (power), F12 GND (power), G1 GND (power), G2 GND (power), G3 GND (power), G4 GND (power), G5 GND (power), G6 GND (power), G7 GND (power), G8 GND (power), G9 GND (power), G10 GND (power), G11 GND (power), G12 GND (power), H1 SYSREF+ (in), H2 SYSREF- (in), H3 AVDD1.0 (power), H4 AVDD1.0 (power), H5 AVDD1.0 (power), H6 FILT_FINE, H7 FILT_COARSE, H8 AVDD1.0 (power), H9 AVDD1.0 (power), H10 AVDD1.0 (power), H11 GND (power), H12 CLKIN- (in), J1 GND (power), J2 NC (hiz), J3 GND (power), J4 GND (power), J5 GND (power), J6 AVDD1.0 (power), J7 FILT_BYP, J8 GND (power), J9 GND (power), J10 GND (power), J11 GND (power), J12 CLKIN+ (in), K1 CLKOUT+ (out), K2 GND (power), K3 AVDD1.8 (power), K4 NC (hiz), K5 AVDD1.8 (power), K6 FILT_VCM, K7 AVDD1.8 (power), K8 GND (power), K9 GND (power), K10 AVDD1.8 (power), K11 GND (power), K12 GND (power), L1 CLKOUT- (out), L2 GND (power), L3 AVDD1.8 (power), L4 GND (power), L5 GND (power), L6 AVDD1.8 (power), L7 AVDD1.8 (power), L8 GND (power), L9 GND (power), L10 AVDD1.8 (power), L11 GND (power), L12 ISET, M1 GND (power), M2 AVDD1.0 (power), M3 GND (power), M4 DAC1+ (out), M5 DAC1- (out), M6 GND (power), M7 GND (power), M8 DAC0- (out), M9 DAC0+ (out), M10 GND (power), M11 AVDD1.0 (power), M12 GND (power)
text: 16-bit DAC 12.6 GSPS

## AD9508BCPZ
designator DA?
1.65 GHz Clock Fanout Buffer with Output Dividers and Delay Adjust; Manufacturer: Analog Devices; Part Nubmer: AD9508BCPZ; Package: LFCSP-24 (4mm x 4mm x 0.8mm)
footprint LFCSP-24(CP-24-14) (QFN, 24-Leads, Body 4.00x4.00mm, Pitch 0.50mm, Thermal Pad 2.30x2.30mm, IPC Medium Density)
pins: 1 CS#/S2 (in), 2 OUT0p (out), 3 OUT0n (out), 4 SDO/S3 (out), 5 EXT_CAP0, 6 VDD (power), 7 OUT1p (out), 8 OUT1n (out), 9 S4, 10 S5, 11 OUT2p (out), 12 OUT2n (out), 13 VDD (power), 14 EXT_CAP1, 15 PROG_SEL (in), 16 OUT3p (out), 17 OUT3n (out), 18 RESET# (in), 19 SCLK/SCL/S0 (in), 20 SYNC# (in), 21 CLKp (in), 22 CLKn (in), 23 IN_SEL (in), 24 SDIO/SDA/S1 (in), EP GND (power)
text: Clock Fanout Buffer

## AD9515BCPZ
designator DA?
RF clock divider; Manufacturer: Analog Devices; Package: LFCSP-32; Part Number: AD9515BCPZ
footprint LFCSP-32EP (LFCSP-32 5x5mm)
pins: 1 VCC (power), 2 CLKp (in), 3 CLKn (in), 4 VCC (power), 5 SYNCB (in), 6 VREF, 7 S10 (in), 8 S9 (in), 9 S8 (in), 10 S7 (in), 11 S6 (in), 12 S5 (in), 13 S4 (in), 14 S3 (in), 15 S2 (in), 16 S1 (in), 17 VCC (power), 18 OUT1n (out), 19 OUT1p (out), 20 VCC (power), 21 VCC (power), 22 OUT0n (out), 23 OUT0p (out), 24 VCC (power), 25 S0 (in), 26 VCC (power), 27 NC, 28 NC, 29 VCC (power), 30 VCC (power), 31 GND (power), 32 RSET, EP GND (power)
text: RF Signal Divider

## AD9742ARUZ
designator DA?  (value not drawn)
12-Bit, 210 MSPS TxDAC Digital-to-Analog Converter; Manufacturer: Analog Devices; Package: TSSOP-28; Part Number: AD9742ARUZ
footprint TSSOP-28 (TSOP, 28-Leads, Pitch 0.65mm, IPC Medium Density)
pins: 1 DB11 (io), 2 DB10 (io), 3 DB9 (io), 4 DB8 (io), 5 DB7 (io), 6 DB6 (io), 7 DB5 (io), 8 DB4 (io), 9 DB3 (io), 10 DB2 (io), 11 DB1 (io), 12 DB0 (io), 13 NC (hiz), 14 NC (hiz), 15 SLEEP (in), 16 REFLO, 17 REFIO, 18 FS_ADJ (out), 19 NC (hiz), 20 ACOM, 21 IOUTB (out), 22 IOUTA (out), 23 RSVD (hiz), 24 AVDD (power), 25 MODE (in), 26 DCOM, 27 DVDD (power), 28 CLOCK (in)
text: 12bit 210 MSPS DAC

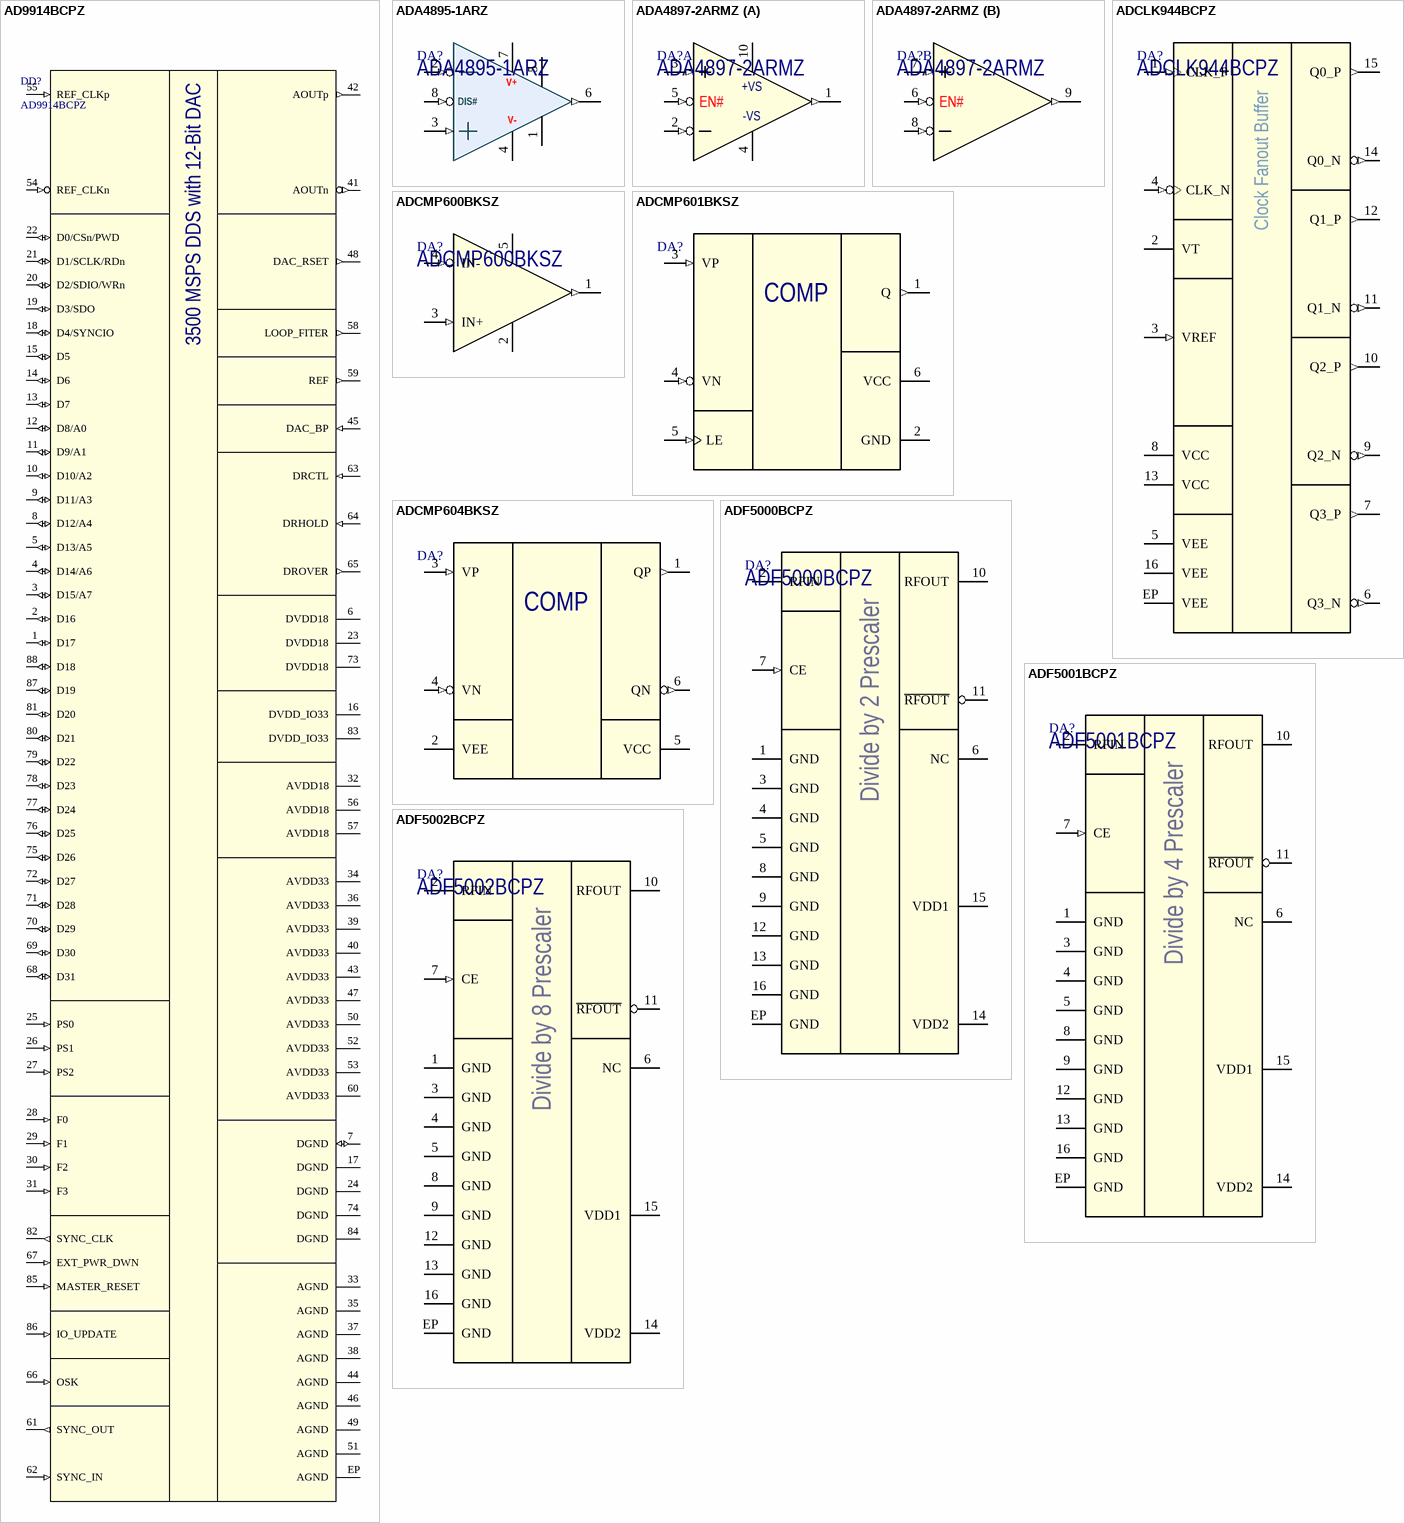
[diagram p4: symbols AD9914BCPZ to ADF5002BCPZ]

## AD9914BCPZ
designator DD?
3.5 GSPS Direct Digital Synthesizer with 12-Bit DAC; Manufacturer: Analog Devices; Package: LFCSP-88 (12x12mm); Part Number: AD9914BCPZ
footprint LFCSP-88EP (LFCSP-88EP package with EP, pitch 0.5mm)
pins: 1 D17 (io), 2 D16 (io), 3 D15/A7 (io), 4 D14/A6 (io), 5 D13/A5 (io), 6 DVDD18 (power), 7 DGND (io), 8 D12/A4 (io), 9 D11/A3 (io), 10 D10/A2 (io), 11 D9/A1 (io), 12 D8/A0 (io), 13 D7 (io), 14 D6 (io), 15 D5 (io), 16 DVDD_IO33 (power), 17 DGND (power), 18 D4/SYNCIO (io), 19 D3/SDO (io), 20 D2/SDIO/WRn (io), 21 D1/SCLK/RDn (io), 22 D0/CSn/PWD (io), 23 DVDD18 (power), 24 DGND (power), 25 PS0 (in), 26 PS1 (in), 27 PS2 (in), 28 F0 (in), 29 F1 (in), 30 F2 (in), 31 F3 (in), 32 AVDD18 (power), 33 AGND (power), 34 AVDD33 (power), 35 AGND (power), 36 AVDD33 (power), 37 AGND (power), 38 AGND (power), 39 AVDD33 (power), 40 AVDD33 (power), 41 AOUTn (out), 42 AOUTp (out), 43 AVDD33 (power), 44 AGND (power), 45 DAC_BP (in), 46 AGND (power), 47 AVDD33 (power), 48 DAC_RSET (out), 49 AGND (power), 50 AVDD33 (power), 51 AGND (power), 52 AVDD33 (power), 53 AVDD33 (power), 54 REF_CLKn (in), 55 REF_CLKp (in), 56 AVDD18 (power), 57 AVDD18 (power), 58 LOOP_FITER (out), 59 REF (out), 60 AVDD33 (power), 61 SYNC_OUT (out), 62 SYNC_IN (in), 63 DRCTL (in), 64 DRHOLD (in), 65 DROVER (out), 66 OSK (in), 67 EXT_PWR_DWN (in), 68 D31 (io), 69 D30 (io), 70 D29 (io), 71 D28 (io), 72 D27 (io), 73 DVDD18 (power), 74 DGND (power), 75 D26 (io), 76 D25 (io), 77 D24 (io), 78 D23 (io), 79 D22 (io), 80 D21 (io), 81 D20 (io), 82 SYNC_CLK (out), 83 DVDD_IO33 (power), 84 DGND (power), 85 MASTER_RESET (in), 86 IO_UPDATE (in), 87 D19 (io), 88 D18 (io), EP AGND (power)
text: 3500 MSPS DDS with 12-Bit DAC

## ADA4895-1ARZ
designator DA?
Low Power, 1 nV/√Hz, Rail-to-Rail Output Amplifier; Manufacturer: Analog Devices; Part Number: ADA4895-1ARZ; Package: SOIC-8
footprint SOIC-8 (SOIC-8 package)
pins: 1 NC (hiz), 2 1IN- (in), 3 1IN+ (in), 4 V- (power), 5 NC (hiz), 6 1OUT (out), 7 V+ (power), 8 DIS (in)
text: DIS#

## ADA4897-2ARMZ
designator DA?
1 nV/√Hz, Low Power, Rail-to-Rail Output Amplifiers; Manufacturer: Analog Devices; Package: MSOP-10; Part Number: ADA4897-2ARMZ
footprint MSOP-10 (TSOP, 8-Leads, Body 3.00x3.00mm, Pitch 0.65mm, IPC Medium Density)
part A pins: 1 OUT1 (out), 2 IN1- (in), 3 IN1+ (in), 4 VS- (power), 5 DIS1 (in), 10 VS+ (power)
part B pins: 6 DIS2 (in), 7 IN2+ (in), 8 IN2- (in), 9 OUT2 (out)
part A text: +VS; EN#; -VS
part B text: EN#

## ADCLK944BCPZ
designator DA?
Four LVPECL Outputs, SiGe Clock Fanout Buffer; Manufacturer: Analog Devices; Package: QFN-16; Part Number: ADCLK944BCPZ
footprint QFN16
pins: 1 CLK_P (in), 2 VT, 3 VREF (in), 4 CLK_N (in), 5 VEE (power), 6 Q3_N (out), 7 Q3_P (out), 8 VCC (power), 9 Q2_N (out), 10 Q2_P (out), 11 Q1_N (out), 12 Q1_P (out), 13 VCC (power), 14 Q0_N (out), 15 Q0_P (out), 16 VEE (power), EP VEE (power)
text: Clock Fanout Buffer

## ADCMP600BKSZ
designator DA?
Analog comparator; Manufacturer: Analog Devices; Package: SC70-5; Part Number: ADCMP600BKSZ
footprint SC70-5
pins: 1 OUT (out), 2 GND (power), 3 IN+ (in), 4 IN- (in), 5 VCC (power)

## ADCMP601BKSZ
designator DA?  (value not drawn)
Rail-to-Rail, TTL/CMOS Comparator; Manufacturer: Analog Devices; Package: SC70-6; Part Number: ADCMP601BKSZ
footprint SC70-6
pins: 1 Q (out), 2 GND (power), 3 VP (in), 4 VN (in), 5 LE (in), 6 VCC (power)
text: COMP

## ADCMP604BKSZ
designator DA?  (value not drawn)
Rail-to-Rail, LVDS Comparator; Manufacturer: Analog Devices; Package: SC70-6; Part Number: ADCMP604BKSZ
footprint SC70-6
pins: 1 QP (out), 2 VEE (power), 3 VP (in), 4 VN (in), 5 VCC (power), 6 QN (out)
text: COMP

## ADF5000BCPZ
designator DA?
4 GHz to 18 GHz Divide-by-2 Prescaler; Manufacturer: Analog Devices; Package: LFCSP-16; Part Number: ADF5000BCPZ
footprint LFCSP-16EP (3x3mm LFCSP-16 Package)
pins: 1 GND (power), 2 RFIN, 3 GND (power), 4 GND (power), 5 GND (power), 6 NC (power), 7 CE (in), 8 GND (power), 9 GND (power), 10 RFOUT, 11 ~{RFOUT}, 12 GND (power), 13 GND (power), 14 VDD2 (power), 15 VDD1 (power), 16 GND (power), EP GND (power)
text: Divide by 2 Prescaler

## ADF5001BCPZ
designator DA?
4 GHz to 18 GHz Divide-by-4 Prescaler; Manufacturer: Analog Devices; Package: LFCSP-16; Part Number: ADF5001BCPZ
footprint LFCSP-16EP (3x3mm LFCSP-16 Package)
pins: 1 GND (power), 2 RFIN, 3 GND (power), 4 GND (power), 5 GND (power), 6 NC (power), 7 CE (in), 8 GND (power), 9 GND (power), 10 RFOUT, 11 ~{RFOUT}, 12 GND (power), 13 GND (power), 14 VDD2 (power), 15 VDD1 (power), 16 GND (power), EP GND (power)
text: Divide by 4 Prescaler

## ADF5002BCPZ
designator DA?
4 GHz to 18 GHz Divide-by-8 Prescaler; Manufacturer: Analog Devices; Package: LFCSP-16; Part Number: ADF5002BCPZ
footprint LFCSP-16EP (3x3mm LFCSP-16 Package)
pins: 1 GND (power), 2 RFIN, 3 GND (power), 4 GND (power), 5 GND (power), 6 NC (power), 7 CE (in), 8 GND (power), 9 GND (power), 10 RFOUT, 11 ~{RFOUT}, 12 GND (power), 13 GND (power), 14 VDD2 (power), 15 VDD1 (power), 16 GND (power), EP GND (power)
text: Divide by 8 Prescaler

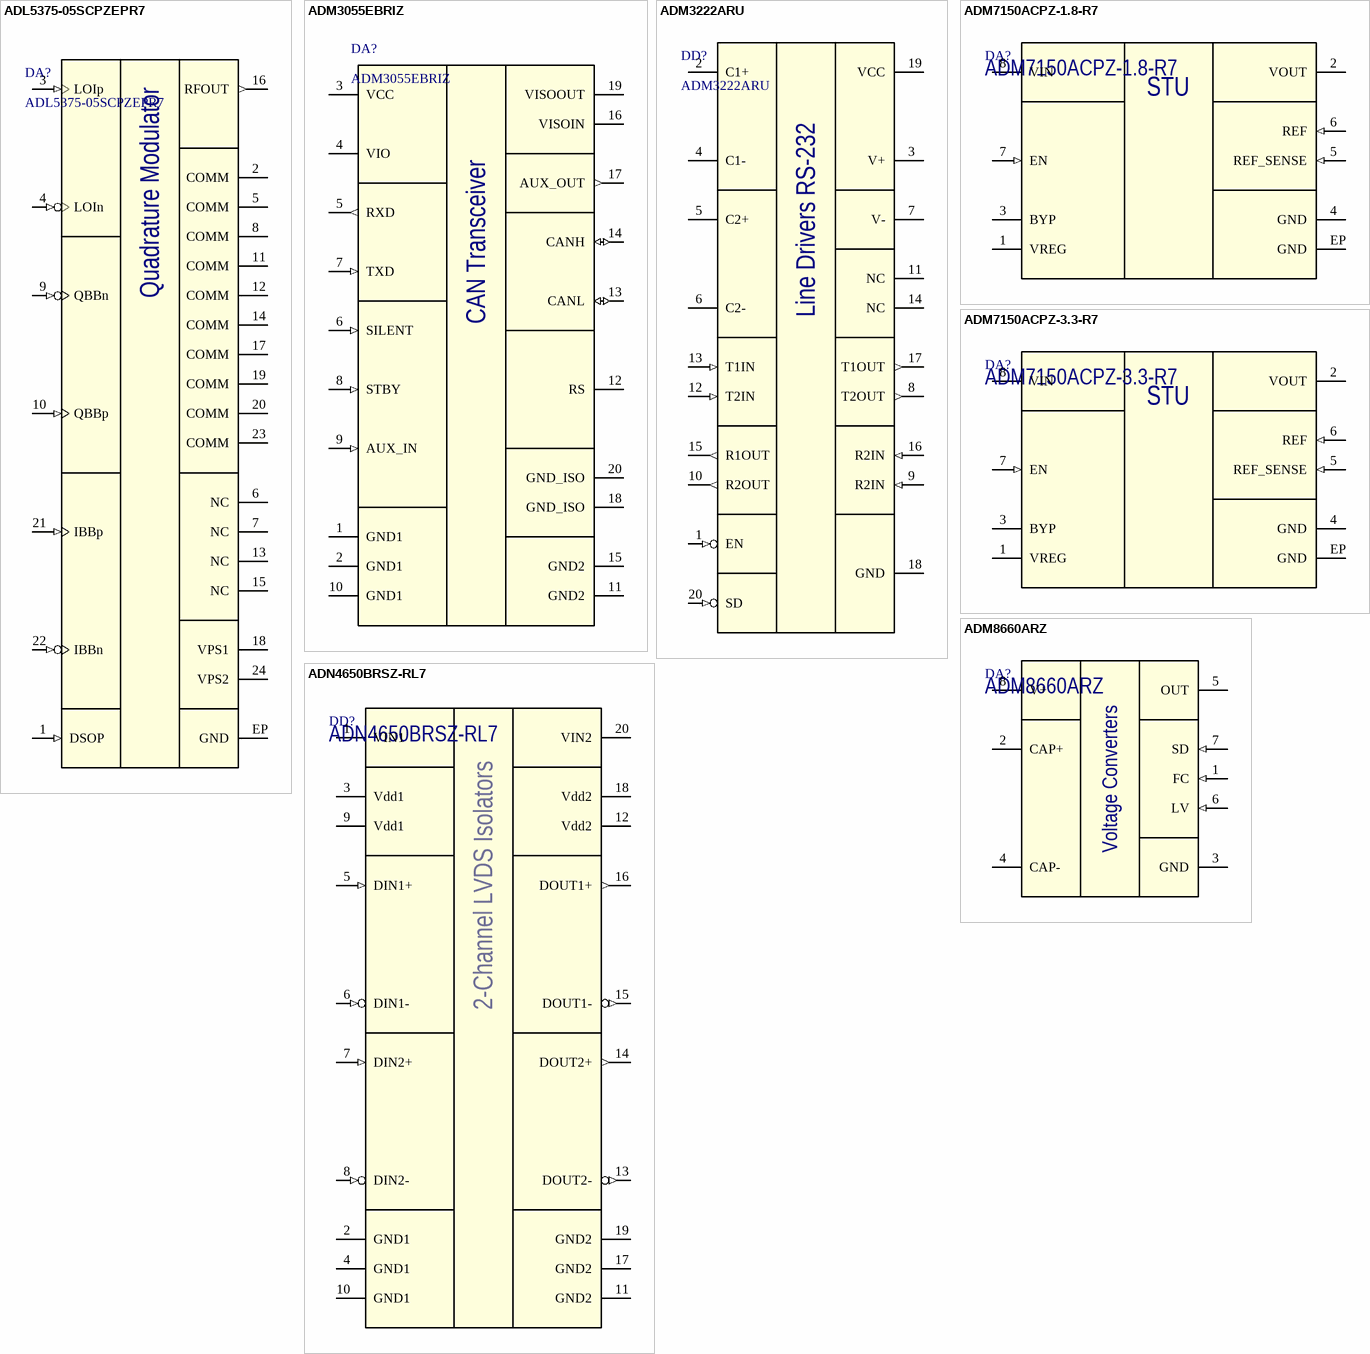
[diagram p5: symbols ADL5375-05SCPZEPR7 to ADN4650BRSZ-RL7]

## ADL5375-05SCPZEPR7
designator DA?
Broadband Quadrature Modulator; Manufacturer: Analog Devices; Package: LFCSP-24; Part Number: ADL5375-05SCPZEPR7
footprint LFCSP-24EP
pins: 1 DSOP (in), 2 COMM (power), 3 LOIp (in), 4 LOIn (in), 5 COMM (power), 6 NC (power), 7 NC (power), 8 COMM (power), 9 QBBn (in), 10 QBBp (in), 11 COMM (power), 12 COMM (power), 13 NC (power), 14 COMM (power), 15 NC (power), 16 RFOUT (out), 17 COMM (power), 18 VPS1 (power), 19 COMM (power), 20 COMM (power), 21 IBBp (in), 22 IBBn (in), 23 COMM (power), 24 VPS2 (power), EP GND (power)
text: Quadrature Modulator

## ADM3055EBRIZ
designator DA?
5 kV rms, Signal and Power Isolated, CAN Transceiver for CAN FD; Manufacturer: Analog Devices; Package: SOIC-20IC; Part Number: ADM3055EBRIZ
footprint SOIC-20IC (SOIC, 20-Leads, Body 15,40x7,49mm, Pitch 1,27mm, IPC Medium Density)
pins: 1 GND1 (power), 2 GND1 (power), 3 VCC (power), 4 VIO (power), 5 RXD (out), 6 SILENT (in), 7 TXD (in), 8 STBY (in), 9 AUX_IN (in), 10 GND1 (power), 11 GND2 (power), 12 RS, 13 CANL (io), 14 CANH (io), 15 GND2 (power), 16 VISOIN (power), 17 AUX_OUT (out), 18 GND_ISO (power), 19 VISOOUT (power), 20 GND_ISO (power)
text: CAN Transceiver

## ADM3222ARU
designator DD?
RS-232 Driver; Manufacturer: Analog Devices; Package: TSSOP20; Part Number: ADM3222ARU
footprint TSSOP-20 (TSOP, 20-Leads, Body 6.50x4.40mm, Pitch 0.65mm, IPC Medium Density)
pins: 1 EN (in), 2 C1+, 3 V+ (power), 4 C1-, 5 C2+, 6 C2-, 7 V- (power), 8 T2OUT (out), 9 R2IN (in), 10 R2OUT (out), 11 NC, 12 T2IN (in), 13 T1IN (in), 14 NC, 15 R1OUT (out), 16 R2IN (in), 17 T1OUT (out), 18 GND (power), 19 VCC (power), 20 SD (in)
text: Line Drivers RS-232

## ADM7150ACPZ-1.8-R7
designator DA?
LDO Vout=1.8V; Manufacturer: Analog Devices; Package: LFCSP-8; Part Number: ADM7150ACPZ-1.8-R7
footprint LFCSP-8EP (QFN, 8-Leads, Body 3,00x3,00mm, Pitch 0,50mm, Thermal Pad 2,34x1,60mm, IPC Medium Density)
pins: 1 VREG, 2 VOUT (power), 3 BYP, 4 GND (power), 5 REF_SENSE (in), 6 REF (in), 7 EN (in), 8 VIN (power), EP GND (power)
text: STU

## ADM7150ACPZ-3.3-R7
designator DA?
LDO Vout=3.3V; Manufacturer: Analog Devices; Package: LFCSP-8; Part Number: ADM7150ACPZ-3.3-R7
footprint LFCSP-8EP (QFN, 8-Leads, Body 3,00x3,00mm, Pitch 0,50mm, Thermal Pad 2,34x1,60mm, IPC Medium Density)
pins: 1 VREG, 2 VOUT (power), 3 BYP, 4 GND (power), 5 REF_SENSE (in), 6 REF (in), 7 EN (in), 8 VIN (power), EP GND (power)
text: STU

## ADM8660ARZ
designator DA?
Dual-Channel Digital Isolators; Manufacturer: Analog Devices; Package: SOIC8; Part Number: ADM8660ARZ
footprint SOIC-8 (SOIC-8 package)
pins: 1 FC (in), 2 CAP+, 3 GND (power), 4 CAP-, 5 OUT (power), 6 LV (in), 7 SD (in), 8 V+ (power)
text: Voltage Converters

## ADN4650BRSZ-RL7
designator DD?
Dual-Channel LVDS Isolators; Manufacturer: Analog Devices; Package: SSOP-20; Part Number: ADN4650BRSZ-RL7
footprint SSOP-20 (SSOP, 20-Leads, Body 12.80x7.50mm, Pitch 1.27mm, IPC Medium Density)
pins: 1 VIN1 (power), 2 GND1 (power), 3 Vdd1 (power), 4 GND1 (power), 5 DIN1+ (in), 6 DIN1- (in), 7 DIN2+ (in), 8 DIN2- (in), 9 Vdd1 (power), 10 GND1 (power), 11 GND2 (power), 12 Vdd2 (power), 13 DOUT2- (out), 14 DOUT2+ (out), 15 DOUT1- (out), 16 DOUT1+ (out), 17 GND2 (power), 18 Vdd2 (power), 19 GND2 (power), 20 VIN2 (power)
text: 2-Channel LVDS Isolators

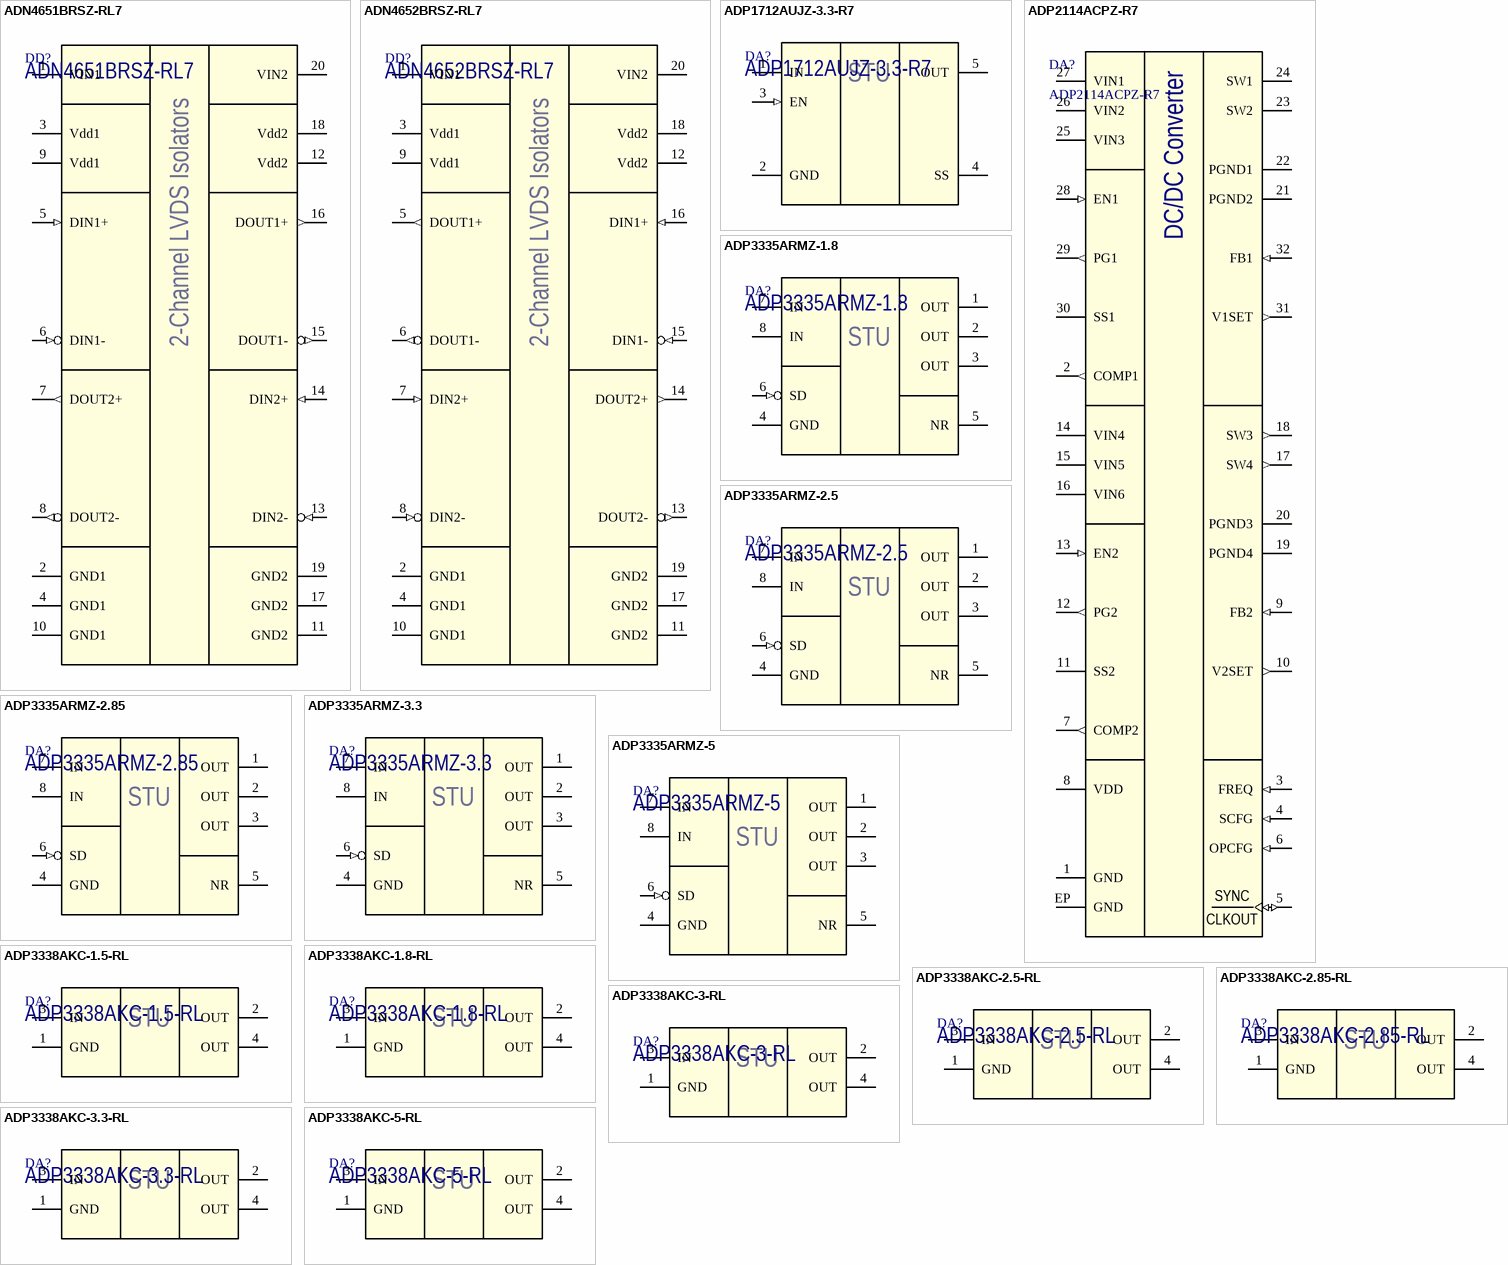
[diagram p6: symbols ADN4651BRSZ-RL7 to ADP3338AKC-5-RL]

## ADN4651BRSZ-RL7
designator DD?
Dual-Channel LVDS Isolators; Manufacturer: Analog Devices; Package: SSOP-20; Part Number: ADN4651BRSZ-RL7
footprint SSOP-20 (SSOP, 20-Leads, Body 12.80x7.50mm, Pitch 1.27mm, IPC Medium Density)
pins: 1 VIN1 (power), 2 GND1 (power), 3 Vdd1 (power), 4 GND1 (power), 5 DIN1+ (in), 6 DIN1- (in), 7 DOUT2+ (out), 8 DOUT2- (out), 9 Vdd1 (power), 10 GND1 (power), 11 GND2 (power), 12 Vdd2 (power), 13 DIN2- (in), 14 DIN2+ (in), 15 DOUT1- (out), 16 DOUT1+ (out), 17 GND2 (power), 18 Vdd2 (power), 19 GND2 (power), 20 VIN2 (power)
text: 2-Channel LVDS Isolators

## ADN4652BRSZ-RL7
designator DD?
Dual-Channel LVDS Isolators; Manufacturer: Analog Devices; Package: SSOP-20; Part Number: ADN4652BRSZ-RL7
footprint SSOP-20 (SSOP, 20-Leads, Body 12.80x7.50mm, Pitch 1.27mm, IPC Medium Density)
pins: 1 VIN1 (power), 2 GND1 (power), 3 Vdd1 (power), 4 GND1 (power), 5 DOUT1+ (out), 6 DOUT1- (out), 7 DIN2+ (in), 8 DIN2- (in), 9 Vdd1 (power), 10 GND1 (power), 11 GND2 (power), 12 Vdd2 (power), 13 DOUT2- (out), 14 DOUT2+ (out), 15 DIN1- (in), 16 DIN1+ (in), 17 GND2 (power), 18 Vdd2 (power), 19 GND2 (power), 20 VIN2 (power)
text: 2-Channel LVDS Isolators

## ADP1712AUJZ-3.3-R7
designator DA?
LDO with Fixed Output Voltage and Soft-Start Capacitor; Manufacturer: Analog Devices; Package: SOT-23-5; Part Number: ADP1712AUJZ-3.3-R7
footprint SOT23-5 (SOT23, 6-Leads, Body 2.90x2.80mm, Pitch 0.95mm, IPC Medium Density)
pins: 1 IN (power), 2 GND (power), 3 EN (in), 4 SS, 5 OUT (power)
text: STU

## ADP2114ACPZ-R7
designator DA?
Configurable, Dual 2 A/Single 4 A, Synchronous Step-Down DC-to-DC Regulator; Manufacturer: Analog Devices; Package: LFCSP-32; Part Number: ADP2114ACPZ-R7
footprint LFCSP-32EP
pins: 1 GND (power), 2 COMP1 (out), 3 FREQ (in), 4 SCFG (in), 5 SYNC/CLKOUT (io), 6 OPCFG (in), 7 COMP2 (out), 8 VDD (power), 9 FB2 (in), 10 V2SET (out), 11 SS2, 12 PG2 (out), 13 EN2 (in), 14 VIN4 (power), 15 VIN5 (power), 16 VIN6 (power), 17 SW4 (out), 18 SW3 (out), 19 PGND4 (power), 20 PGND3 (power), 21 PGND2 (power), 22 PGND1 (power), 23 SW2 (power), 24 SW1 (power), 25 VIN3 (power), 26 VIN2 (power), 27 VIN1 (power), 28 EN1 (in), 29 PG1 (out), 30 SS1, 31 V1SET (out), 32 FB1 (in), EP GND (power)
text: DC/DC Converter; SYNC; CLKOUT

## ADP3335ARMZ-1.8
designator DA?
LDO Vout=1.8V; Manufacturer: Analog Devices; Package: MSOP-8; Part Number: ADP3335ARMZ-1.8
footprint MSOP-8 (TSOP, 8-Leads, Body 3.00x3.00mm, Pitch 0.65mm, IPC Medium Density)
pins: 1 OUT (power), 2 OUT (power), 3 OUT (power), 4 GND (power), 5 NR, 6 SD (in), 7 IN (power), 8 IN (power)
text: STU

## ADP3335ARMZ-2.5
designator DA?
LDO Vout=2.5V; Manufacturer: Analog Devices; Package: MSOP-8; Part Number: ADP3335ARMZ-2.5
footprint MSOP-8 (TSOP, 8-Leads, Body 3.00x3.00mm, Pitch 0.65mm, IPC Medium Density)
pins: 1 OUT (power), 2 OUT (power), 3 OUT (power), 4 GND (power), 5 NR, 6 SD (in), 7 IN (power), 8 IN (power)
text: STU

## ADP3335ARMZ-2.85
designator DA?
LDO Vout=2.85V; Manufacturer: Analog Devices; Package: MSOP-8; Part Number: ADP3335ARMZ-2.85
footprint MSOP-8 (TSOP, 8-Leads, Body 3.00x3.00mm, Pitch 0.65mm, IPC Medium Density)
pins: 1 OUT (power), 2 OUT (power), 3 OUT (power), 4 GND (power), 5 NR, 6 SD (in), 7 IN (power), 8 IN (power)
text: STU

## ADP3335ARMZ-3.3
designator DA?
LDO Vout=3.3V; Manufacturer: Analog Devices; Package: MSOP-8; Part Number: ADP3335ARMZ-3.3
footprint MSOP-8 (TSOP, 8-Leads, Body 3.00x3.00mm, Pitch 0.65mm, IPC Medium Density)
pins: 1 OUT (power), 2 OUT (power), 3 OUT (power), 4 GND (power), 5 NR, 6 SD (in), 7 IN (power), 8 IN (power)
text: STU

## ADP3335ARMZ-5
designator DA?
LDO Vout=5V; Manufacturer: Analog Devices; Package: MSOP-8; Part Number: ADP3335ARMZ-5
footprint MSOP-8 (TSOP, 8-Leads, Body 3.00x3.00mm, Pitch 0.65mm, IPC Medium Density)
pins: 1 OUT (power), 2 OUT (power), 3 OUT (power), 4 GND (power), 5 NR, 6 SD (in), 7 IN (power), 8 IN (power)
text: STU

## ADP3338AKC-1.5-RL
designator DA?
LDO Vout=1.5V; Manufacturer: Analog Devices; Package: SOT223; Part Number: ADP3338AKC-1.5-RL
footprint SOT223-4 (SOT223, 4-Leads, Body 6.50x7.00mm (avg), Pitch 2.30mm, IPC Medium Density)
pins: 1 GND (power), 2 OUT (power), 3 IN (power), 4 OUT (power)
text: STU

## ADP3338AKC-1.8-RL
designator DA?
LDO Vout=1.8V; Manufacturer: Analog Devices; Package: SOT223; Part Number: ADP3338AKC-1.8-RL
footprint SOT223-4 (SOT223, 4-Leads, Body 6.50x7.00mm (avg), Pitch 2.30mm, IPC Medium Density)
pins: 1 GND (power), 2 OUT (power), 3 IN (power), 4 OUT (power)
text: STU

## ADP3338AKC-2.5-RL
designator DA?
LDO Vout=2.5V; Manufacturer: Analog Devices; Package: SOT223; Part Number: ADP3338AKC-2.5-RL
footprint SOT223-4 (SOT223, 4-Leads, Body 6.50x7.00mm (avg), Pitch 2.30mm, IPC Medium Density)
pins: 1 GND (power), 2 OUT (power), 3 IN (power), 4 OUT (power)
text: STU

## ADP3338AKC-2.85-RL
designator DA?
LDO Vout=2.85V; Manufacturer: Analog Devices; Package: SOT223; Part Number: ADP3338AKC-2.85-RL
footprint SOT223-4 (SOT223, 4-Leads, Body 6.50x7.00mm (avg), Pitch 2.30mm, IPC Medium Density)
pins: 1 GND (power), 2 OUT (power), 3 IN (power), 4 OUT (power)
text: STU

## ADP3338AKC-3-RL
designator DA?
LDO Vout=3V; Manufacturer: Analog Devices; Package: SOT223; Part Number: ADP3338AKC-3-RL
footprint SOT223-4 (SOT223, 4-Leads, Body 6.50x7.00mm (avg), Pitch 2.30mm, IPC Medium Density)
pins: 1 GND (power), 2 OUT (power), 3 IN (power), 4 OUT (power)
text: STU

## ADP3338AKC-3.3-RL
designator DA?
LDO Vout=3.3V; Manufacturer: Analog Devices; Package: SOT223; Part Number: ADP3338AKC-3.3-RL
footprint SOT223-4 (SOT223, 4-Leads, Body 6.50x7.00mm (avg), Pitch 2.30mm, IPC Medium Density)
pins: 1 GND (power), 2 OUT (power), 3 IN (power), 4 OUT (power)
text: STU

## ADP3338AKC-5-RL
designator DA?
LDO Vout=5V; Manufacturer: Analog Devices; Package: SOT223; Part Number: ADP3338AKC-5-RL
footprint SOT223-4 (SOT223, 4-Leads, Body 6.50x7.00mm (avg), Pitch 2.30mm, IPC Medium Density)
pins: 1 GND (power), 2 OUT (power), 3 IN (power), 4 OUT (power)
text: STU

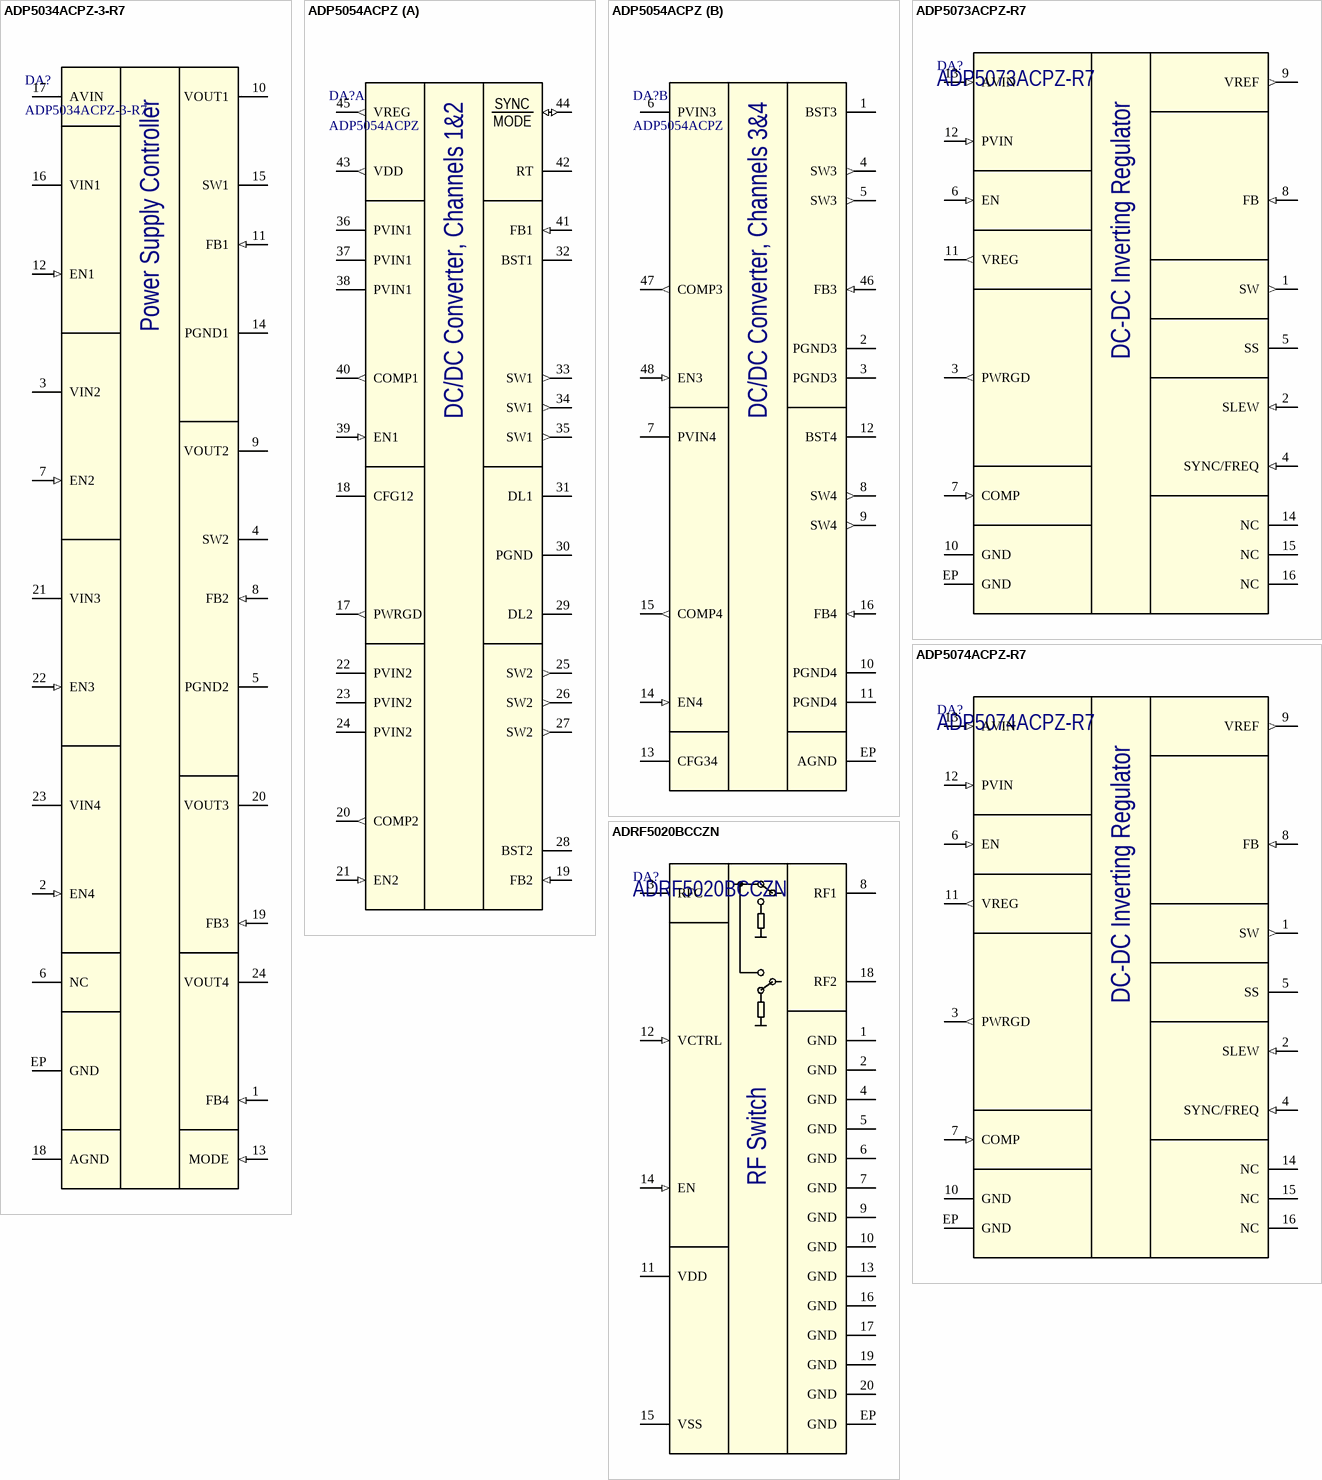
[diagram p7: symbols ADP5034ACPZ-3-R7 to ADRF5020BCCZN]

## ADP5034ACPZ-3-R7
designator DA?
Dual 3 MHz, 1200 mA Buck Regulator with Two 300 mA LDOs; Manufacturer: Analog Devices; Package: LFCSP-24; Part Number: ADP5034ACPZ-3-R7
footprint LFCSP-24EP
pins: 1 FB4 (in), 2 EN4 (in), 3 VIN2 (power), 4 SW2 (power), 5 PGND2 (power), 6 NC (hiz), 7 EN2 (in), 8 FB2 (in), 9 VOUT2 (power), 10 VOUT1 (power), 11 FB1 (in), 12 EN1 (in), 13 MODE (in), 14 PGND1 (power), 15 SW1 (power), 16 VIN1 (power), 17 AVIN (power), 18 AGND (power), 19 FB3 (in), 20 VOUT3 (power), 21 VIN3 (power), 22 EN3 (in), 23 VIN4 (power), 24 VOUT4 (power), EP GND (power)
text: Power Supply Controller

## ADP5054ACPZ
designator DA?
Quad Buck Regulator Integrated Power Solution; Manufacturer: Analog Devices; Package: LFCSP-48; Part Number: ADP5054ACPZ
footprint LFCSP-48_FUSED_LEADS (AD CP-48-16 case style)
part A pins: 17 PWRGD (out), 18 CFG12, 19 FB2 (in), 20 COMP2 (out), 21 EN2 (in), 22 PVIN2 (power), 23 PVIN2 (power), 24 PVIN2 (power), 25 SW2 (out), 26 SW2 (out), 27 SW2 (out), 28 BST2 (power), 29 DL2, 30 PGND (power), 31 DL1, 32 BST1 (power), 33 SW1 (out), 34 SW1 (out), 35 SW1 (out), 36 PVIN1 (power), 37 PVIN1 (power), 38 PVIN1 (power), 39 EN1 (in), 40 COMP1 (out), 41 FB1 (in), 42 RT, 43 VDD (out), 44 SYNC/MODE (io), 45 VREG (out)
part B pins: 1 BST3 (power), 2 PGND3 (power), 3 PGND3 (power), 4 SW3 (out), 5 SW3 (out), 6 PVIN3 (power), 7 PVIN4 (power), 8 SW4 (out), 9 SW4 (out), 10 PGND4 (power), 11 PGND4 (power), 12 BST4 (power), 13 CFG34, 14 EN4 (in), 15 COMP4 (out), 16 FB4 (in), 46 FB3 (in), 47 COMP3 (out), 48 EN3 (in), EP AGND (power)
part A text: SYNC; MODE; DC/DC Converter, Channels 1&2
part B text: DC/DC Converter, Channels 3&4

## ADP5073ACPZ-R7
designator DA?
1.2 A, DC-to-DC Inverting Regulator; Manufacturer: Analog Devices; Package: LFCSP-16; Part Number: ADP5073ACPZ-R7
footprint LFCSP-16EP (3x3mm LFCSP-16 Package)
pins: 1 SW (out), 2 SLEW (in), 3 PWRGD (out), 4 SYNC/FREQ (in), 5 SS, 6 EN (in), 7 COMP (in), 8 FB (in), 9 VREF (out), 10 GND (power), 11 VREG (out), 12 PVIN (in), 13 AVIN (in), 14 NC (hiz), 15 NC (hiz), 16 NC (hiz), EP GND (power)
text: DC-DC Inverting Regulator

## ADP5074ACPZ-R7
designator DA?
2.4 A, DC-to-DC Inverting Regulator; Manufacturer: Analog Devices; Package: LFCSP-16; Part Number: ADP5074ACPZ-R7
footprint LFCSP-16EP (3x3mm LFCSP-16 Package)
pins: 1 SW (out), 2 SLEW (in), 3 PWRGD (out), 4 SYNC/FREQ (in), 5 SS, 6 EN (in), 7 COMP (in), 8 FB (in), 9 VREF (out), 10 GND (power), 11 VREG (out), 12 PVIN (in), 13 AVIN (in), 14 NC (hiz), 15 NC (hiz), 16 NC (hiz), EP GND (power)
text: DC-DC Inverting Regulator

## ADRF5020BCCZN
designator DA?
100 MHz to 30 GHz, Silicon SPDT Switch; Manufacturer: Analog Devices; Package: LGA-20; Part Number: ADRF5020BCCZN
footprint LGA-20 (CC-20-3) (Case style CC-20-3)
pins: 1 GND (power), 2 GND (power), 3 RFC, 4 GND (power), 5 GND (power), 6 GND (power), 7 GND (power), 8 RF1, 9 GND (power), 10 GND (power), 11 VDD (power), 12 VCTRL (in), 13 GND (power), 14 EN (in), 15 VSS (power), 16 GND (power), 17 GND (power), 18 RF2, 19 GND (power), 20 GND (power), EP GND (power)
text: RF Switch

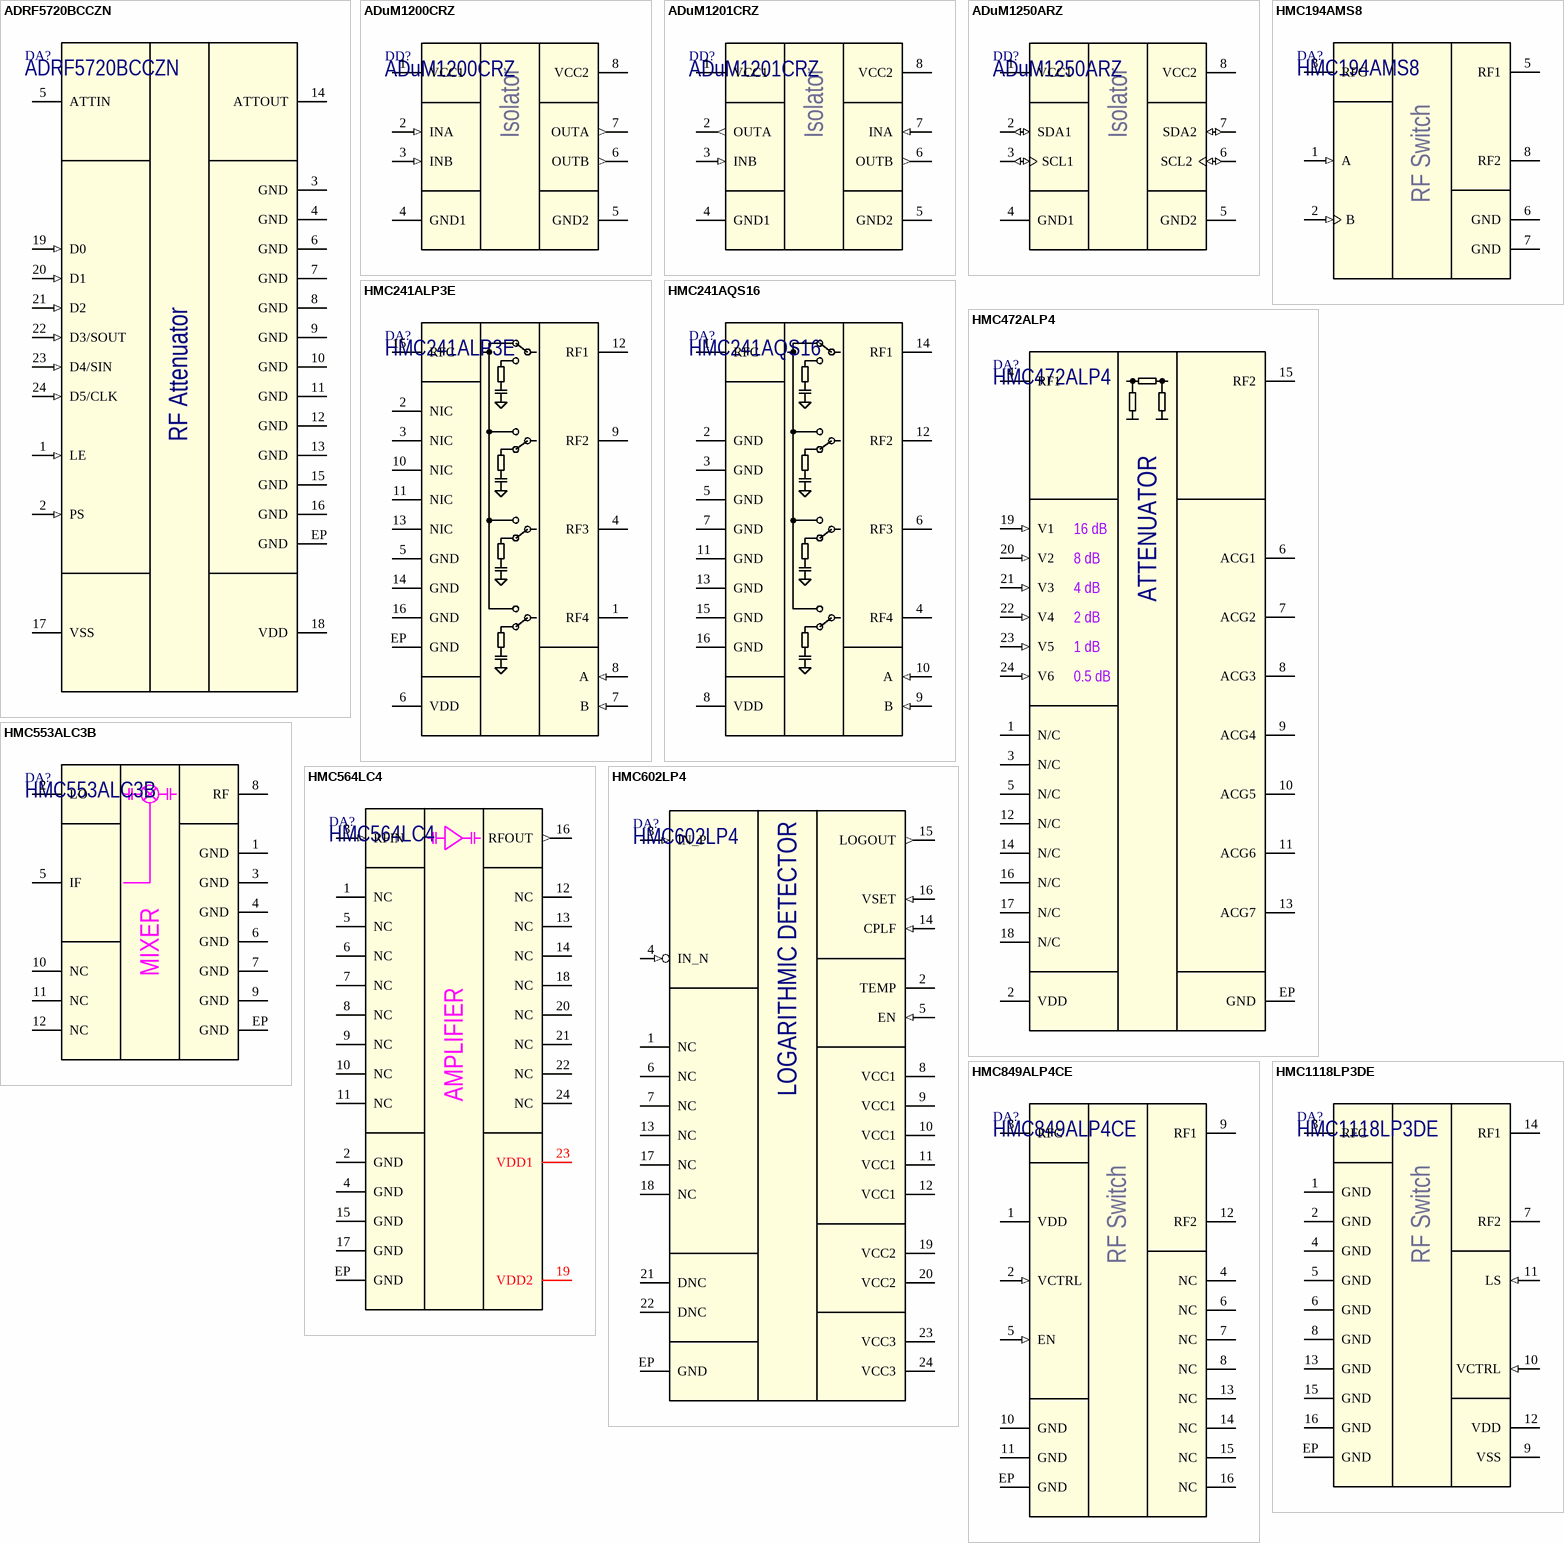
[diagram p8: symbols ADRF5720BCCZN to HMC1118LP3DE]

## ADRF5720BCCZN
designator DA?
0.5 dB LSB, 6-Bit, Silicon Digital Attenuator, 9 kHz to 40 GHz; Manufacturer: Analog Devices; Package: LGA-24; Part Number: ADRF5720BCCZN
footprint LGA-24 (CC-24-5) (PQFN, 24-Leads, Body 4,00x4,00mm, Pitch 0,50mm, Thermal Pad 2,40x2,40mm, IPC Medium Density)
pins: 1 LE (in), 2 PS (in), 3 GND (power), 4 GND (power), 5 ATTIN, 6 GND (power), 7 GND (power), 8 GND (power), 9 GND (power), 10 GND (power), 11 GND (power), 12 GND (power), 13 GND (power), 14 ATTOUT, 15 GND (power), 16 GND (power), 17 VSS (power), 18 VDD (power), 19 D0 (in), 20 D1 (in), 21 D2 (in), 22 D3/SOUT (in), 23 D4/SIN (in), 24 D5/CLK (in), EP GND (power)
text: RF Attenuator

## ADuM1200CRZ
designator DD?
Dual-Channel Digital Isolators; Manufacturer: Analog Devices; Package: SOIC8; Part Number: ADuM1200CRZ
footprint SOIC-8 (SOIC-8 package)
pins: 1 VCC1 (power), 2 INA (in), 3 INB (in), 4 GND1 (power), 5 GND2 (power), 6 OUTB (out), 7 OUTA (out), 8 VCC2 (power)
text: Isolator

## ADuM1201CRZ
designator DD?
Dual-Channel Digital Isolators; Manufacturer: Analog Devices; Package: SOIC8; Part Number: ADuM1201CRZ
footprint SOIC-8 (SOIC-8 package)
pins: 1 VCC1 (power), 2 OUTA (out), 3 INB (in), 4 GND1 (power), 5 GND2 (power), 6 OUTB (out), 7 INA (in), 8 VCC2 (power)
text: Isolator

## ADuM1250ARZ
designator DD?
Dual-Channel Digital Isolators; Manufacturer: Analog Devices; Package: SOIC8; Part Number: ADuM1250ARZ
footprint SOIC-8 (SOIC-8 package)
pins: 1 VCC1 (power), 2 SDA1 (io), 3 SCL1 (io), 4 GND1 (power), 5 GND2 (power), 6 SCL2 (io), 7 SDA2 (io), 8 VCC2 (power)
text: Isolator

## HMC194AMS8
designator DA?
RF switch DC to 3.0 GHz; Manufacturer: Analog Devices; Isolation: 50 dB; Package: MSOP-8; Part Number: HMC194AMS8
footprint MSOP-8 (TSOP, 8-Leads, Body 3.00x3.00mm, Pitch 0.65mm, IPC Medium Density)
pins: 1 A (in), 2 B (in), 3 RFC, 5 RF1, 6 GND (power), 7 GND (power), 8 RF2
text: RF Switch

## HMC241ALP3E
designator DA?
GaAs MMIC SP4T NON-REFLECTIVE SWITCH 100 MHz to 4 GHz; Manufacturer: Analog Devices; Package: QFN-16; Part Number: HMC241ALP3E
footprint LFCSP-16 (CP-16-50) (3x3mm LFCSP-16 Package)
pins: 1 RF4, 2 NIC (hiz), 3 NIC (hiz), 4 RF3, 5 GND (power), 6 VDD (power), 7 B (in), 8 A (in), 9 RF2, 10 NIC (hiz), 11 NIC (hiz), 12 RF1, 13 NIC (hiz), 14 GND (power), 15 RFC, 16 GND (power), EP GND (power)

## HMC241AQS16
designator DA?
GaAs MMIC SP4T NON-REFLECTIVE SWITCH, DC - 3.5 GHz; Manufacturer: Analog Devices; Package: QSOP-16; Part Number: HMC241AQS16
footprint QSOP-16
pins: 1 RFC, 2 GND (power), 3 GND (power), 4 RF4, 5 GND (power), 6 RF3, 7 GND (power), 8 VDD (power), 9 B (in), 10 A (in), 11 GND (power), 12 RF2, 13 GND (power), 14 RF1, 15 GND (power), 16 GND (power)

## HMC472ALP4
designator DA?
0.5 dB LSB GaAs MMIC 6-BIT DIGITAL POSITIVE CONTROL ATTENUATOR, DC - 3.8 GHz; Manufacturer: Analog Devices; Package: LFCSP-24 (CP-24-16); Part Number: HMC472ALP4
footprint LFCSP-24 (CP-24-16) (Case style CP-24-16)
pins: 1 N/C (hiz), 2 VDD (power), 3 N/C (hiz), 4 RF1, 5 N/C (hiz), 6 ACG1, 7 ACG2, 8 ACG3, 9 ACG4, 10 ACG5, 11 ACG6, 12 N/C (hiz), 13 ACG7, 14 N/C (hiz), 15 RF2, 16 N/C (hiz), 17 N/C (hiz), 18 N/C (hiz), 19 V1 (in), 20 V2 (in), 21 V3 (in), 22 V4 (in), 23 V5 (in), 24 V6 (in), EP GND (power)
text: 16 dB; ATTENUATOR; 8 dB; 4 dB; 2 dB; 1 dB; 0.5 dB

## HMC553ALC3B
designator DA?
6 GHz to 14 GHz, GaAs, MMIC, Double-Balanced Mixer; Manufacturer: Analog Devices; Package: LCC-12; Part Number: HMC553ALC3B
footprint LCC-12 (E-12-4) (Case style E-12-4)
pins: 1 GND (power), 2 LO, 3 GND (power), 4 GND (power), 5 IF, 6 GND (power), 7 GND (power), 8 RF, 9 GND (power), 10 NC, 11 NC, 12 NC, EP GND (power)
text: MIXER

## HMC564LC4
designator DA?
GaAs SMT pHEMT LOW NOISE AMPLIFIER, 7 - 14 GHz; Manufacturer: Analog Devices; Package: LCC-24; Part Number: HMC564LC4
footprint LCC-24 (E-24-1) (Case style E-24-1)
pins: 1 NC, 2 GND (power), 3 RFIN (in), 4 GND (power), 5 NC, 6 NC, 7 NC, 8 NC, 9 NC, 10 NC, 11 NC, 12 NC, 13 NC, 14 NC, 15 GND (power), 16 RFOUT (out), 17 GND (power), 18 NC, 19 VDD2 (power), 20 NC, 21 NC, 22 NC, 23 VDD1 (power), 24 NC, EP GND (power)
text: AMPLIFIER

## HMC602LP4
designator DA?
70 dB, LOGARITHMIC DETECTOR / CONTROLLER, 1 - 8000 MHz; Manufacturer: Analog Devices; Package: LFCSP_VQ24; Part Number: HMC602LP4
footprint LFCSP_VQ24 (Case style HCP-24-2)
pins: 1 NC (hiz), 2 TEMP, 3 IN_P (in), 4 IN_N (in), 5 EN (in), 6 NC (hiz), 7 NC (hiz), 8 VCC1 (power), 9 VCC1 (power), 10 VCC1 (power), 11 VCC1 (power), 12 VCC1 (power), 13 NC (hiz), 14 CPLF (in), 15 LOGOUT (out), 16 VSET (in), 17 NC (hiz), 18 NC (hiz), 19 VCC2 (power), 20 VCC2 (power), 21 DNC (hiz) "Don't connect", 22 DNC (hiz) "Don't connect", 23 VCC3 (power), 24 VCC3 (power), EP GND (power)
text: LOGARITHMIC DETECTOR

## HMC849ALP4CE
designator DA?
RF switch DC to 6 GHz; Manufacturer: Analog Devices; Isolation: 50 dB at 4.0 - 6.0 GHz; Insertion loss: 1.8 dB at 4.0 - 6.0 GHz; Package: QFN-16; Part Number: HMC849ALP4CE
footprint QFN16
pins: 1 VDD (power), 2 VCTRL (in), 3 RFC, 4 NC (power), 5 EN (in), 6 NC (power), 7 NC (power), 8 NC (power), 9 RF1, 10 GND (power), 11 GND (power), 12 RF2, 13 NC (power), 14 NC (power), 15 NC (power), 16 NC (power), EP GND (power)
text: RF Switch

## HMC1118LP3DE
designator DA?
RF switch 9 kHz to 13.0 GHz; Manufacturer: Analog Devices; Isolation: 48 dB at 8.0 GHz; Insertion loss: 0.68 dB at 8.0 GHz; Package: QFN-16; Part Number: HMC1118LP3DE
footprint QFN16
pins: 1 GND (power), 2 GND (power), 3 RFC, 4 GND (power), 5 GND (power), 6 GND (power), 7 RF2, 8 GND (power), 9 VSS (power), 10 VCTRL (in), 11 LS (in), 12 VDD (power), 13 GND (power), 14 RF1, 15 GND (power), 16 GND (power), EP GND (power)
text: RF Switch